# Altium schematic symbol library NEW-MODUL.SchLib: 247 symbols (part 1 of 2)
Pins are listed as number, name and electrical type; pins without a type are passive.

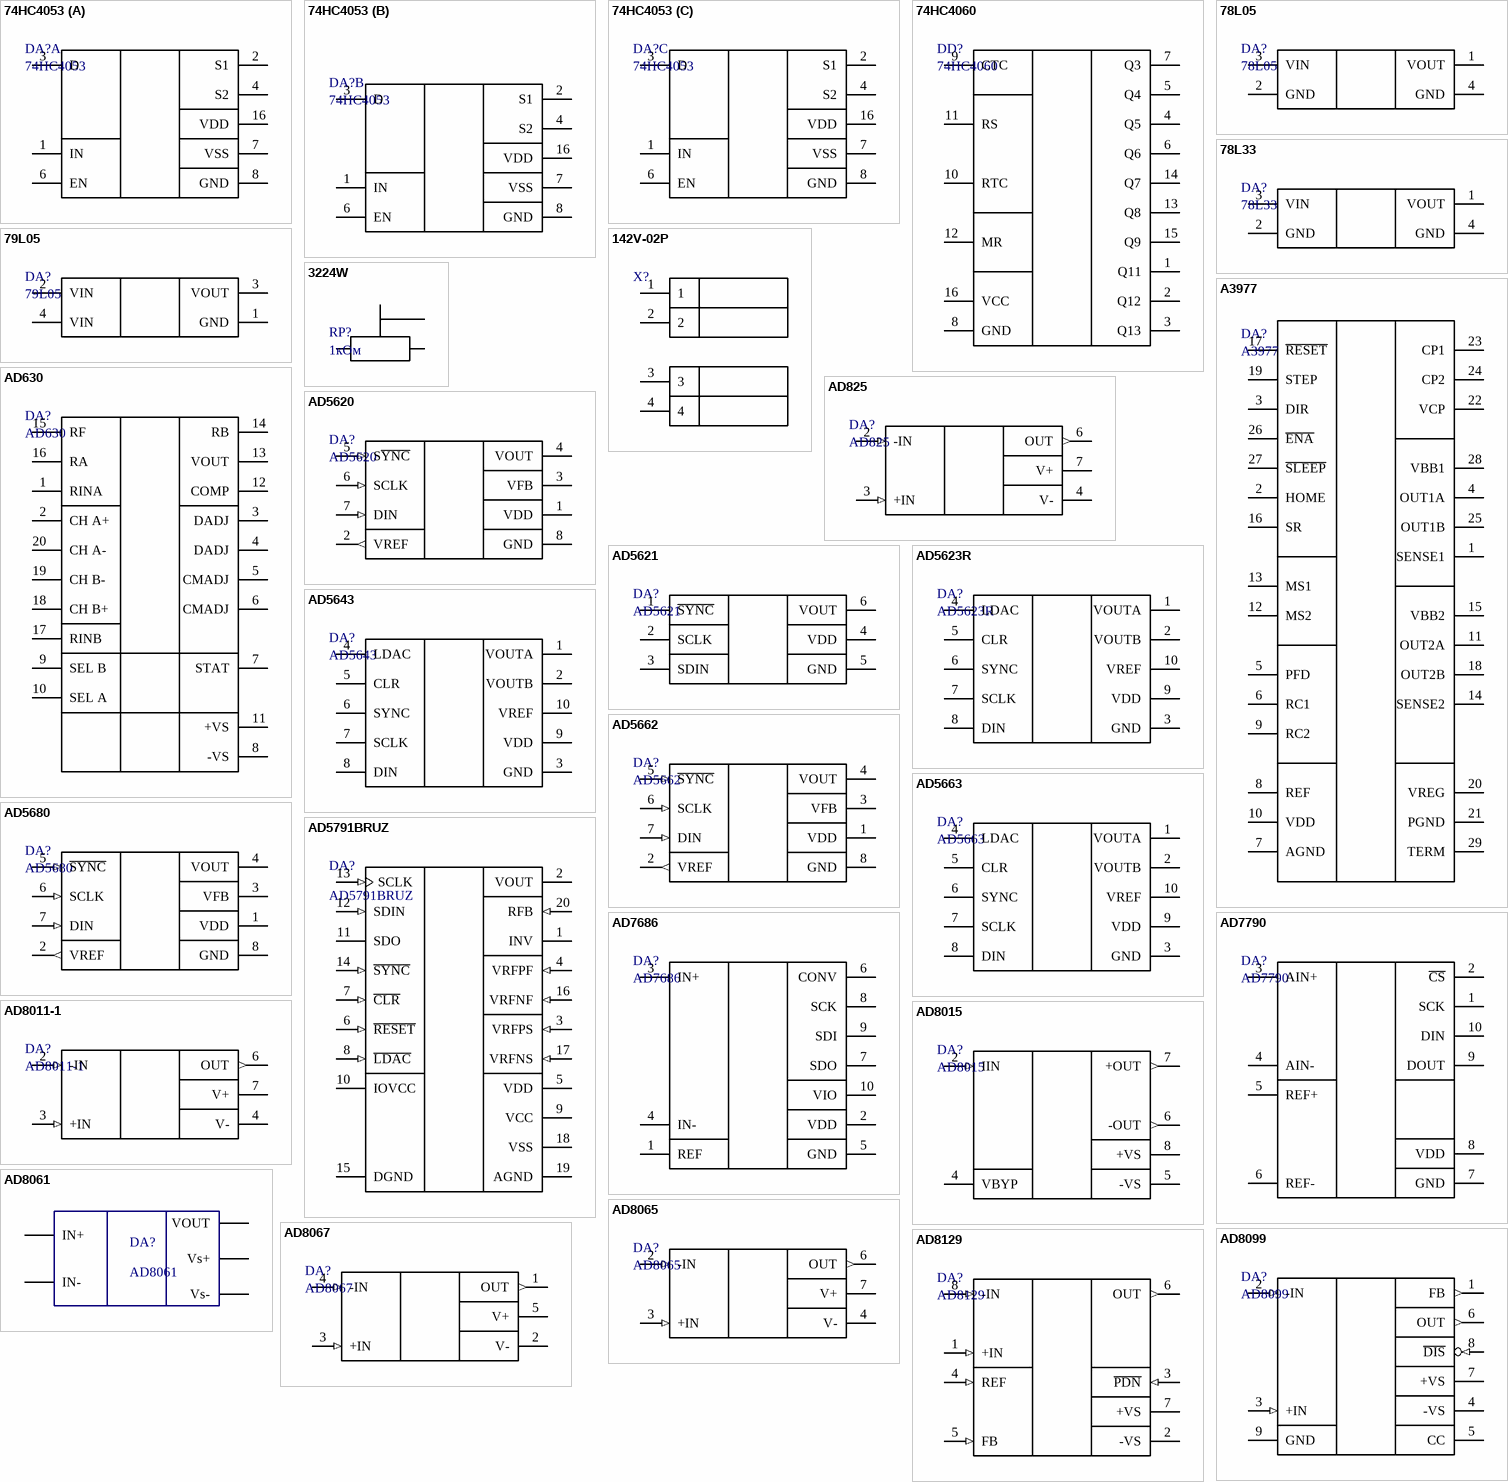
[diagram p0: symbols 74HC4053 to AD8129]

## 74HC4053
designator DA?
footprint R-16A_M (16-Pin Small Outline Integrated Circuit 1.27 mm Pitch, IPC Low Density)
part A pins: 1 IN, 2 S1, 3 D, 4 S2, 6 EN, 7 VSS, 8 GND, 16 VDD
part B pins: 1 IN, 2 S1, 3 D, 4 S2, 6 EN, 7 VSS, 8 GND, 16 VDD
part C pins: 1 IN, 2 S1, 3 D, 4 S2, 6 EN, 7 VSS, 8 GND, 16 VDD

## 74HC4060
designator DD?
14-stage binary ripple counter with oscillator
footprint R-16A_M (16-Pin Small Outline Integrated Circuit 1.27 mm Pitch, IPC Low Density)
pins: 1 Q11, 2 Q12, 3 Q13, 4 Q5, 5 Q4, 6 Q6, 7 Q3, 8 GND, 9 CTC, 10 RTC, 11 RS, 12 MR, 13 Q8, 14 Q7, 15 Q9, 16 VCC

## 78L05
designator DA?
footprint SOT89 (SOT-89; Body 4.6 x 4.25 mm, inc. leads (LxW max))
pins: 1 VOUT, 2 GND, 3 VIN, 4 GND

## 78L33
designator DA?
footprint SOT89 (SOT-89; Body 4.6 x 4.25 mm, inc. leads (LxW max))
pins: 1 VOUT, 2 GND, 3 VIN, 4 GND

## 79L05
designator DA?
footprint SOT89 (SOT-89; Body 4.6 x 4.25 mm, inc. leads (LxW max))
pins: 1 GND, 2 VIN, 3 VOUT, 4 VIN

## 142V-02P
designator X?  (value not drawn)
footprint 142V-02P
pins: 1, 2, 3, 4

## 3224W
designator RP?, comment 1кОм
подстроечный резистор; Value: 1кОм
footprint 3224W
pins: 1, 2, 3

## A3977
designator DA?
footprint TSOP65P640-28AM - THERMAL-PAD (TSOP, 28-Leads, Body 9.7x4.4mm, Pitch 0.65mm, IPC Low Density)
pins: 1 SENSE1, 2 HOME, 3 DIR, 4 OUT1A, 5 PFD, 6 RC1, 7 AGND, 8 REF, 9 RC2, 10 VDD, 11 OUT2A, 12 MS2, 13 MS1, 14 SENSE2, 15 VBB2, 16 SR, 17 ~{RESET}, 18 OUT2B, 19 STEP, 20 VREG, 21 PGND, 22 VCP, 23 CP1, 24 CP2, 25 OUT1B, 26 ~{ENA}, 27 ~{SLEEP}, 28 VBB1, 29 TERM

## AD630
designator DA?
Balanced Modulator/Demodulator
footprint SOL-20_M (20-Pin Small Outline Integrated Circuit 1.27 mm Pitch, IPC Low Density)
pins: 1 RINA, 2 CH A+, 3 DADJ, 4 DADJ, 5 CMADJ, 6 CMADJ, 7 STAT, 8 -VS, 9 SEL B, 10 SEL A, 11 +VS, 12 COMP, 13 VOUT, 14 RB, 15 RF, 16 RA, 17 RINB, 18 CH B+, 19 CH B-, 20 CH A-

## AD825
designator DA?
FET OP
footprint SOIC127P600-8BM (SOIC, 8-Leads, Body 4.9x3.9mm, Pitch 1.27mm, IPC Low Density)
pins: 2 -IN (in), 3 +IN (in), 4 V- (power), 6 OUT (out), 7 V+ (power)

## AD5620
designator DA?
footprint UMAX8 (Shrink Small Outline; 8 Leads; Body Width 3 mm; Pitch 0.65 mm)
pins: 1 VDD (power), 2 VREF (out), 3 VFB, 4 VOUT, 5 S~{YNC} (in), 6 SCLK (in), 7 DIN (in), 8 GND

## AD5621
designator DA?
footprint ADI-KS-6_N (SOT23, 6-Leads, Body 2x1.25mm, Pitch 0.65mm, IPC Medium Density)
pins: 1 ~{SYNC}, 2 SCLK, 3 SDIN, 4 VDD, 5 GND, 6 VOUT

## AD5623R
designator DA?
footprint UMAX10 (Shrink Small Outline; 10 Leads; Body Width 3 mm; Pitch 0.5 mm)
pins: 1 VOUTA, 2 VOUTB, 3 GND, 4 LDAC, 5 CLR, 6 SYNC, 7 SCLK, 8 DIN, 9 VDD, 10 VREF

## AD5643
designator DA?
footprint UMAX10 (Shrink Small Outline; 10 Leads; Body Width 3 mm; Pitch 0.5 mm)
pins: 1 VOUTA, 2 VOUTB, 3 GND, 4 LDAC, 5 CLR, 6 SYNC, 7 SCLK, 8 DIN, 9 VDD, 10 VREF

## AD5662
designator DA?
footprint UMAX8 (Shrink Small Outline; 8 Leads; Body Width 3 mm; Pitch 0.65 mm)
pins: 1 VDD (power), 2 VREF (out), 3 VFB, 4 VOUT, 5 ~{SYNC} (in), 6 SCLK (in), 7 DIN (in), 8 GND

## AD5663
designator DA?
footprint UMAX10 (Shrink Small Outline; 10 Leads; Body Width 3 mm; Pitch 0.5 mm)
pins: 1 VOUTA, 2 VOUTB, 3 GND, 4 LDAC, 5 CLR, 6 SYNC, 7 SCLK, 8 DIN, 9 VDD, 10 VREF

## AD5680
designator DA?
5 V 18-Bit nanoDAC
footprint RJ-8_N (SOP, 8-Leads, Body 2.9x1.6mm, Pitch 0.65mm, IPC Medium Density)
pins: 1 VDD (power), 2 VREF (out), 3 VFB, 4 VOUT, 5 ~{SYNC} (in), 6 SCLK (in), 7 DIN (in), 8 GND

## AD5791BRUZ
designator DA?
Single 20-Bit Voltage Output Digital-to-Analog Converter, 1 ppm, -40 to +125 degC, RU-20, Pb-Free, Tube; ADI Part Number: AD5791; Manufacturer: Analog Devices; # DAC Outputs: 1; Max V+: 16.5V; Op Pwr Diss: 126.3mW; Resolution (Bits): 20; Settling Time: 1µs; Single Supply: No; DatasheetVersion: Rev.C; PackageVersion: 2000; PackageReference: RU-20; PackageDescription: 20-Lead Thin Shrink Small Outline Package [TSSOP]; Packing: Tube; RoHS: Y; Mounting Technology: Surface Mount; Code_JEDEC: MO-153AC; ComponentLink1Description: Manufacturer URL; ComponentLink1URL: http://www.analog.com/en/index.html; ComponentLink2Description: Datasheet; ComponentLink2URL: http://www.analog.com/static/imported-files/data_sheets/AD5791.pdf; ComponentLink3Description: Package Specification; ComponentLink3URL: http://www.analog.com/static/imported-files/packages/364515793657813558433715854054607941441RU20.pdf; ComponentLink4Description: URL Link1; ComponentLink4URL: Product URL:http://www.analog.com/en/digital-to-analog-converters/da-converters/ad5791/products/product.html
footprint TSOP65P640-20BM (TSOP, 20-Leads, Body 6.5x4.4mm, Pitch 0.65mm, IPC Low Density)
pins: 1 INV "Connection to Inverting Input of External Amplifier. See the AD5791 Features section for further details.", 2 VOUT (hiz) "Analog Output Voltage.", 3 VRFPS (in) "Positive Reference Sense Voltage Input. A voltage range of 5 V to VDD - 2.5 V can be connected. A unity gain amplifier must be connected at this pin in conjunction with the VREFPF pin. See the AD5791 Features section for (See Datasheet)", 4 VRFPF (in) "Positive Reference Force Voltage Input. A voltage range of 5 V to VDD - 2.5 V can be connected. A unity gain amplifier must be connected at this pin in conjunction with the VREFPS pin. See the AD5791 Features section for (See Datasheet)", 5 VDD (power) "Positive Analog Supply Connection. A voltage range of 7.5 V to 16.5 V can be connected, VDD should be decoupled to AGND.", 6 ~{RESET} (in) "Active Low Reset Logic Input Pin. Asserting this pin returns the AD5791 to its power-on status.", 7 ~{CLR} (in) "Active Low Clear Logic Input Pin. Asserting this pin sets the DAC register to a user defined value (see Table 13) and updates the DAC output. The output value depends on the DAC register coding that is being used, either (See Datasheet)", 8 ~{LDAC} (in) "Active Low Load DAC Logic Input Pin. This is used to update the DAC register and consequently, the analog output. When tied permanently low, the output is updated on the rising edge of S\Y\N\C\. If L\D\A\C\ is held high (See Datasheet)", 9 VCC (power) "Digital Supply Connection. A voltage range of 2.7 V to 5.5 V can be connected. VCC should be decoupled to DGND.", 10 IOVCC (power) "Digital Interface Supply Pin. Digital threshold levels are referenced to the voltage applied to this pin. A voltage in the range of 1.71 V to 5.5 V can be connected. IOVCC should not be allowed to exceed VCC.", 11 SDO (hiz) "Serial Data Output Pin. Data is clocked out on the rising edge of the serial clock input.", 12 SDIN (in) "Serial Data Input Pin. This device has a 24-bit shift register. Data is clocked into the register on the falling edge of the serial clock input.", 13 SCLK (in) "Serial Clock Input. Data is clocked into the input shift register on the falling edge of the serial clock input. Data can be transferred at clock rates of up to 35 MHz.", 14 ~{SYNC} (in) "Active Low Digital Interface Synchronization Input Pin. This is the frame synchronization signal for the input data. When S\Y\N\C\ is low, it enables the input shift register, and data is then transferred in on the falling (See Datasheet)", 15 DGND (power) "Ground Reference Pin for Digital Circuitry.", 16 VRFNF (in) "Negative Reference Force Voltage Input. A voltage range of VSS + 2.5 V to 0 V can be connected. A unity gain amplifier must be connected at this pin, in conjunction with the VREFNS pin. See the AD5791 Features section for (See Datasheet)", 17 VRFNS (in) "Negative Reference Sense Voltage Input. A voltage range of VSS + 2.5 V to 0 V can be connected. A unity gain amplifier must be connected at this pin, in conjunction with the VREFNF pin. See the AD5791 Features section for (See Datasheet)", 18 VSS (power) "Negative Analog Supply Connection. A voltage range of -16.5 V to -2.5 V can be connected. VSS should be decoupled to AGND.", 19 AGND (power) "Ground Reference Pin for Analog Circuitry.", 20 RFB (in) "Feedback Connection for External Amplifier. See the AD5791 Features section for further details."

## AD7686
designator DA?
footprint UMAX10 (Shrink Small Outline; 10 Leads; Body Width 3 mm; Pitch 0.5 mm)
pins: 1 REF, 2 VDD, 3 IN+, 4 IN-, 5 GND, 6 CONV, 7 SDO, 8 SCK, 9 SDI, 10 VIO

## AD7790
designator DA?
footprint UMAX10 (Shrink Small Outline; 10 Leads; Body Width 3 mm; Pitch 0.5 mm)
pins: 1 SCK, 2 ~{CS}, 3 AIN+, 4 AIN-, 5 REF+, 6 REF-, 7 GND, 8 VDD, 9 DOUT, 10 DIN

## AD8011-1
designator DA?
Current Feedback Amplifier
footprint SOIC127P600-8BM (SOIC, 8-Leads, Body 4.9x3.9mm, Pitch 1.27mm, IPC Low Density)
pins: 2 -IN (in), 3 +IN (in), 4 V- (power), 6 OUT (out), 7 V+ (power)

## AD8015
designator DA?
Трансимпедансный усилитель
footprint SOIC127P600-8BM (SOIC, 8-Leads, Body 4.9x3.9mm, Pitch 1.27mm, IPC Low Density)
pins: 2 IIN (in), 4 VBYP, 5 -VS (power), 6 -OUT (out), 7 +OUT (out), 8 +VS (power)

## AD8061
designator DA?
OpAmp, Rail-toRail
footprint SOT23-5AM (SOT23, 5-Leads, Body 2.9x1.7mm, Pitch 0.95mm, Lead Span 2.8mm, IPC Low Density)
pins: 1 VOUT, 2 Vs-, 3 IN+, 4 IN-, 5 Vs+

## AD8065
designator DA?
FET OP
footprint SOIC127P600-8BM (SOIC, 8-Leads, Body 4.9x3.9mm, Pitch 1.27mm, IPC Low Density)
pins: 2 -IN (in), 3 +IN (in), 4 V- (power), 6 OUT (out), 7 V+ (power)

## AD8067
designator DA?
FET OP
footprint SOT23-5AM (SOT23, 5-Leads, Body 2.9x1.7mm, Pitch 0.95mm, Lead Span 2.8mm, IPC Low Density)
pins: 1 OUT (out), 2 V- (power), 3 +IN (in), 4 -IN (in), 5 V+ (power)

## AD8099
designator DA?
footprint SOIC_N_EP (8-Pin Small Outline Integrated Circuit 1.27 mm Pitch, IPC High Density)
pins: 1 FB (out), 2 -IN (in), 3 +IN (in), 4 -VS (power), 5 CC (power), 6 OUT (out), 7 +VS (power), 8 ~{DIS} (in), 9 GND

## AD8129
designator DA?
differential-to-single-ended amplifier
footprint SOIC127P600-8BM (SOIC, 8-Leads, Body 4.9x3.9mm, Pitch 1.27mm, IPC Low Density)
pins: 1 +IN (in), 2 -VS (power), 3 ~{PDN} (in), 4 REF (in), 5 FB (in), 6 OUT (out), 7 +VS (power), 8 -IN (in)

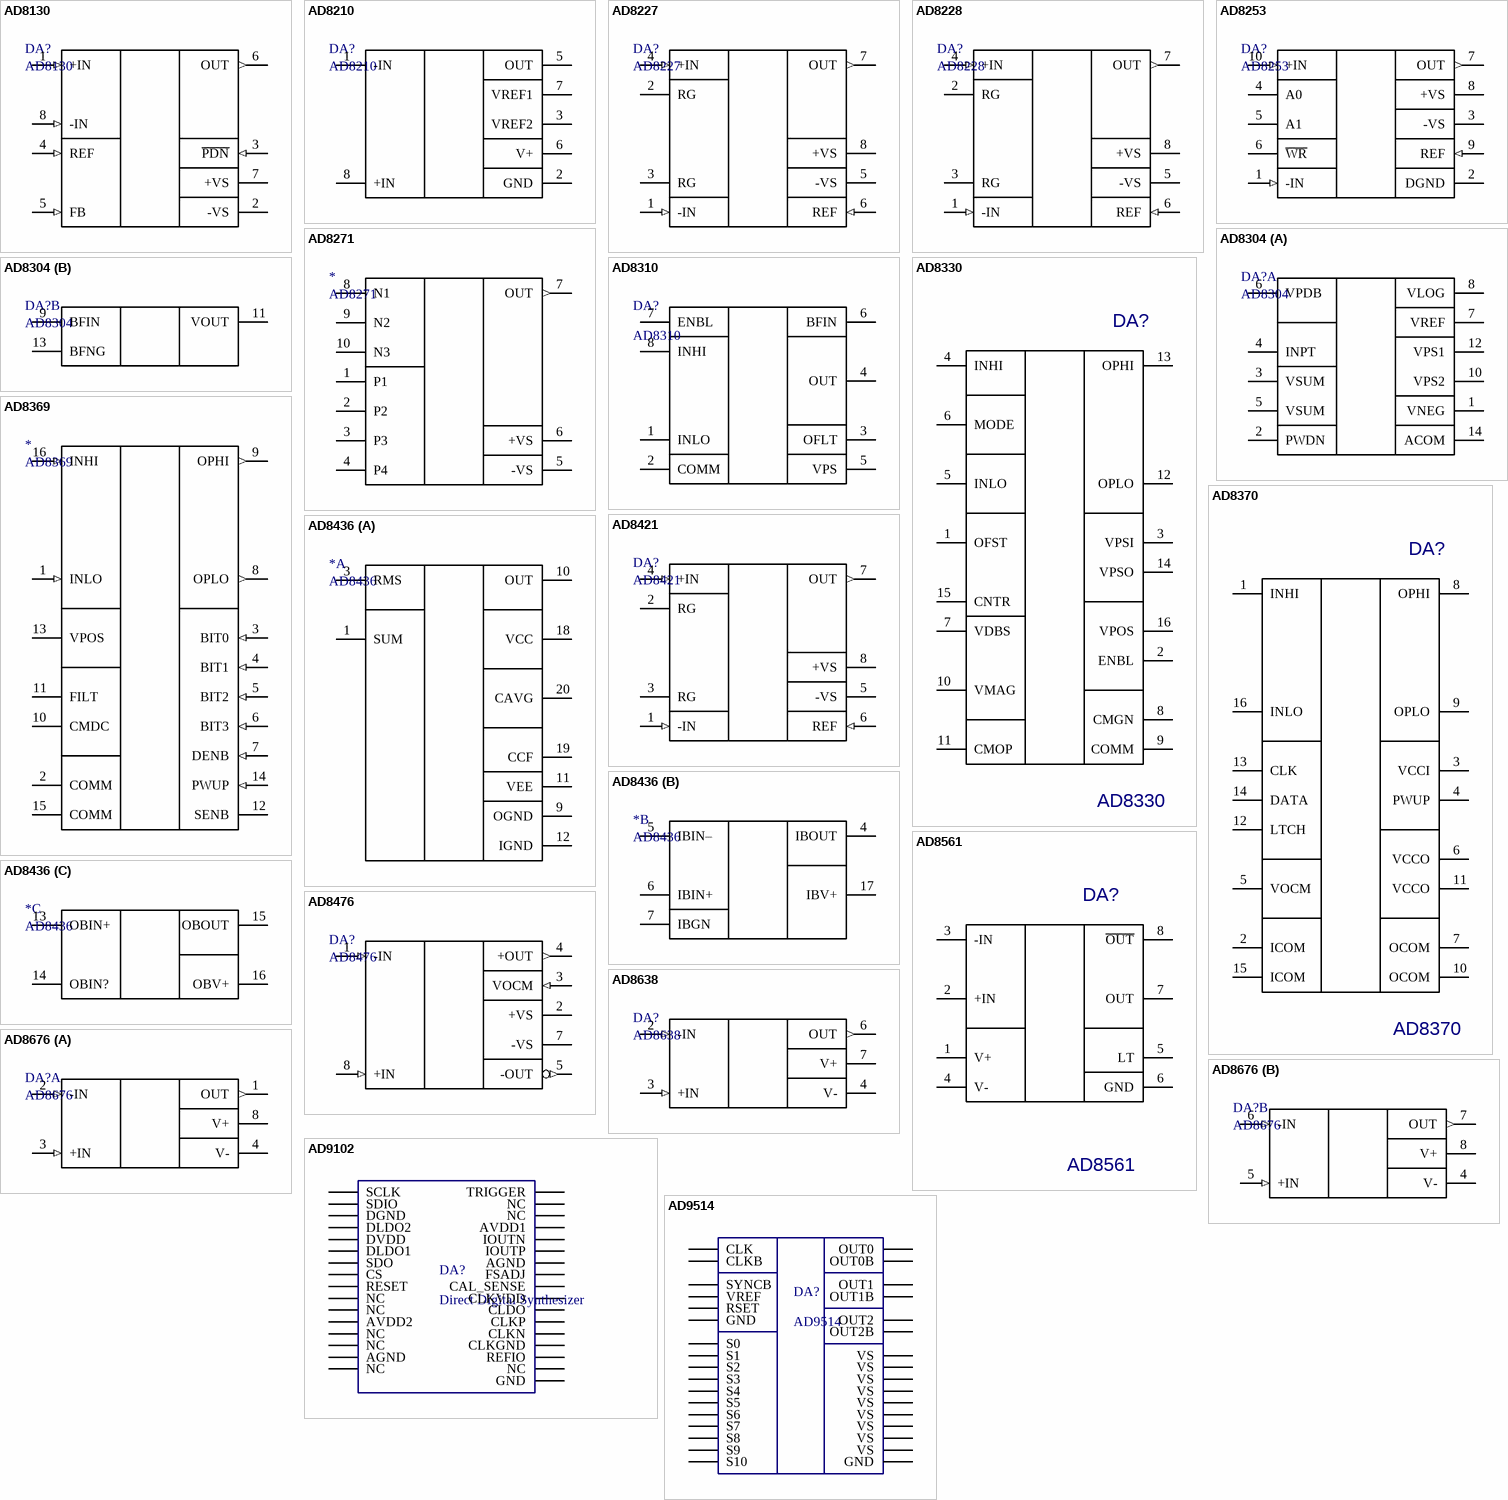
[diagram p1: symbols AD8130 to AD9514]

## AD8130
designator DA?
differential-to-single-ended amplifier
footprint SOIC127P600-8BM (SOIC, 8-Leads, Body 4.9x3.9mm, Pitch 1.27mm, IPC Low Density)
pins: 1 +IN (in), 2 -VS (power), 3 ~{PDN} (in), 4 REF (in), 5 FB (in), 6 OUT (out), 7 +VS (power), 8 -IN (in)

## AD8210
designator DA?
High Voltage, Bidirectional  Current Shunt Monitor
footprint SOIC127P600-8BM (SOIC, 8-Leads, Body 4.9x3.9mm, Pitch 1.27mm, IPC Low Density)
pins: 1 -IN, 2 GND, 3 VREF2, 5 OUT, 6 V+, 7 VREF1, 8 +IN

## AD8227
designator DA?
instrumentation amplifier
footprint SO-8_L (8-Pin Small Outline Integrated Circuit 1.27 mm Pitch, IPC High Density)
pins: 1 -IN (in), 2 RG, 3 RG, 4 +IN (in), 5 -VS (power), 6 REF (in), 7 OUT (out), 8 +VS (power)

## AD8228
designator DA?
instrumentation amplifier
footprint SO-8_L (8-Pin Small Outline Integrated Circuit 1.27 mm Pitch, IPC High Density)
pins: 1 -IN (in), 2 RG, 3 RG, 4 +IN (in), 5 -VS (power), 6 REF (in), 7 OUT (out), 8 +VS (power)

## AD8253
designator DA?
instrumentation amplifier
footprint UMAX10 (Shrink Small Outline; 10 Leads; Body Width 3 mm; Pitch 0.5 mm)
pins: 1 -IN (in), 2 DGND, 3 -VS (power), 4 A0, 5 A1, 6 ~{WR}, 7 OUT (out), 8 +VS (power), 9 REF (in), 10 +IN (in)

## AD8271
designator *
footprint UMAX10 (Shrink Small Outline; 10 Leads; Body Width 3 mm; Pitch 0.5 mm)
pins: 1 P1, 2 P2, 3 P3, 4 P4, 5 -VS (power), 6 +VS (power), 7 OUT (out), 8 N1, 9 N2, 10 N3

## AD8304
designator DA?
160 dB Range (100 pA –10 mA)  Logarithmic Converter
footprint ADI-RU-14_N (SOP, 14-Leads, Body 5x4.4mm, Pitch 0.65mm, IPC Medium Density)
part A pins: 1 VNEG, 2 PWDN, 3 VSUM, 4 INPT, 5 VSUM, 6 VPDB, 7 VREF, 8 VLOG, 10 VPS2, 12 VPS1, 14 ACOM
part B pins: 9 BFIN, 11 VOUT, 13 BFNG

## AD8310
designator DA?
footprint UMAX8 (Shrink Small Outline; 8 Leads; Body Width 3 mm; Pitch 0.65 mm)
pins: 1 INLO, 2 COMM, 3 OFLT, 4 OUT, 5 VPS, 6 BFIN, 7 ENBL, 8 INHI

## AD8330
designator DA?
Value: *
footprint QSOP16
pins: 1 OFST, 2 ENBL, 3 VPSI, 4 INHI, 5 INLO, 6 MODE, 7 VDBS, 8 CMGN, 9 COMM, 10 VMAG, 11 CMOP, 12 OPLO, 13 OPHI, 14 VPSO, 15 CNTR, 16 VPOS

## AD8369
designator *
footprint QSOP16
pins: 1 INLO (in), 2 COMM, 3 BIT0 (in), 4 BIT1 (in), 5 BIT2 (in), 6 BIT3 (in), 7 DENB (in), 8 OPLO (out), 9 OPHI (out), 10 CMDC, 11 FILT, 12 SENB, 13 VPOS, 14 PWUP (in), 15 COMM, 16 INHI (in)

## AD8370
designator DA?
Value: *
footprint QSOP16
pins: 1 INHI, 2 ICOM, 3 VCCI, 4 PWUP, 5 VOCM, 6 VCCO, 7 OCOM, 8 OPHI, 9 OPLO, 10 OCOM, 11 VCCO, 12 LTCH, 13 CLK, 14 DATA, 15 ICOM, 16 INLO

## AD8421
designator DA?
instrumentation amplifier
footprint SO-8_L (8-Pin Small Outline Integrated Circuit 1.27 mm Pitch, IPC High Density)
pins: 1 -IN (in), 2 RG, 3 RG, 4 +IN (in), 5 -VS (power), 6 REF (in), 7 OUT (out), 8 +VS (power)

## AD8436
designator *
footprint QSOP20
part A pins: 1 SUM, 3 RMS, 9 OGND, 10 OUT, 11 VEE, 12 IGND, 18 VCC, 19 CCF, 20 CAVG
part B pins: 4 IBOUT, 5 IBIN–, 6 IBIN+, 7 IBGN, 17 IBV+
part C pins: 13 OBIN+, 14 OBIN?, 15 OBOUT, 16 OBV+

## AD8476
designator DA?
Low Power, Unity Gain, Fully  Differential Amplifier and ADC Driver
footprint UMAX8 (Shrink Small Outline; 8 Leads; Body Width 3 mm; Pitch 0.65 mm)
pins: 1 -IN (in), 2 +VS (power), 3 VOCM (in), 4 +OUT (out), 5 -OUT (out), 7 -VS (power), 8 +IN (in)

## AD8561
designator DA?
Value: *
footprint SOIC127P600-8BM (SOIC, 8-Leads, Body 4.9x3.9mm, Pitch 1.27mm, IPC Low Density)
pins: 1 V+, 2 +IN, 3 -IN, 4 V-, 5 LT, 6 GND, 7 OUT, 8 ~{OUT}

## AD8638
designator DA?
OP
footprint SOIC127P600-8BM (SOIC, 8-Leads, Body 4.9x3.9mm, Pitch 1.27mm, IPC Low Density)
pins: 2 -IN (in), 3 +IN (in), 4 V- (power), 6 OUT (out), 7 V+ (power)

## AD8676
designator DA?
Ultra Precision, 36 V, 2.8 nV/√Hz Dual RRO Op Amp
footprint SOIC127P600-8BM (SOIC, 8-Leads, Body 4.9x3.9mm, Pitch 1.27mm, IPC Low Density)
part A pins: 1 OUT (out), 2 -IN (in), 3 +IN (in), 4 V- (power), 8 V+ (power)
part B pins: 4 V- (power), 5 +IN (in), 6 -IN (in), 7 OUT (out), 8 V+ (power)

## AD9102
designator DA?, comment Direct Digital Synthesizer
footprint CP-32-2_M (QFN, 32-Leads, Body 5x5mm, Pitch 0.5mm, Thermal Pad 3.1x3.1mm, IPC Low Density)
pins: 1 SCLK, 2 SDIO, 3 DGND, 4 DLDO2, 5 DVDD, 6 DLDO1, 7 SDO, 8 CS, 9 RESET, 10 NC, 11 NC, 12 AVDD2, 13 NC, 14 NC, 15 AGND, 16 NC, 17 NC, 18 REFIO, 19 CLKGND, 20 CLKN, 21 CLKP, 22 CLDO, 23 CLKVDD, 24 CAL_SENSE, 25 FSADJ, 26 AGND, 27 IOUTP, 28 IOUTN, 29 AVDD1, 30 NC, 31 NC, 32 TRIGGER, 33 GND

## AD9514
designator DA?
footprint CP-32-2_M (QFN, 32-Leads, Body 5x5mm, Pitch 0.5mm, Thermal Pad 3.1x3.1mm, IPC Low Density)
pins: 1 VS, 2 CLK, 3 CLKB, 4 VS, 5 SYNCB, 6 VREF, 7 S10, 8 S9, 9 S8, 10 S7, 11 S6, 12 S5, 13 S4, 14 S3, 15 S2, 16 S1, 17 VS, 18 OUT2B, 19 OUT2, 20 VS, 21 VS, 22 OUT1B, 23 OUT1, 24 VS, 25 S0, 26 VS, 27 OUT0B, 28 OUT0, 29 VS, 30 VS, 31 GND, 32 RSET, 33 GND

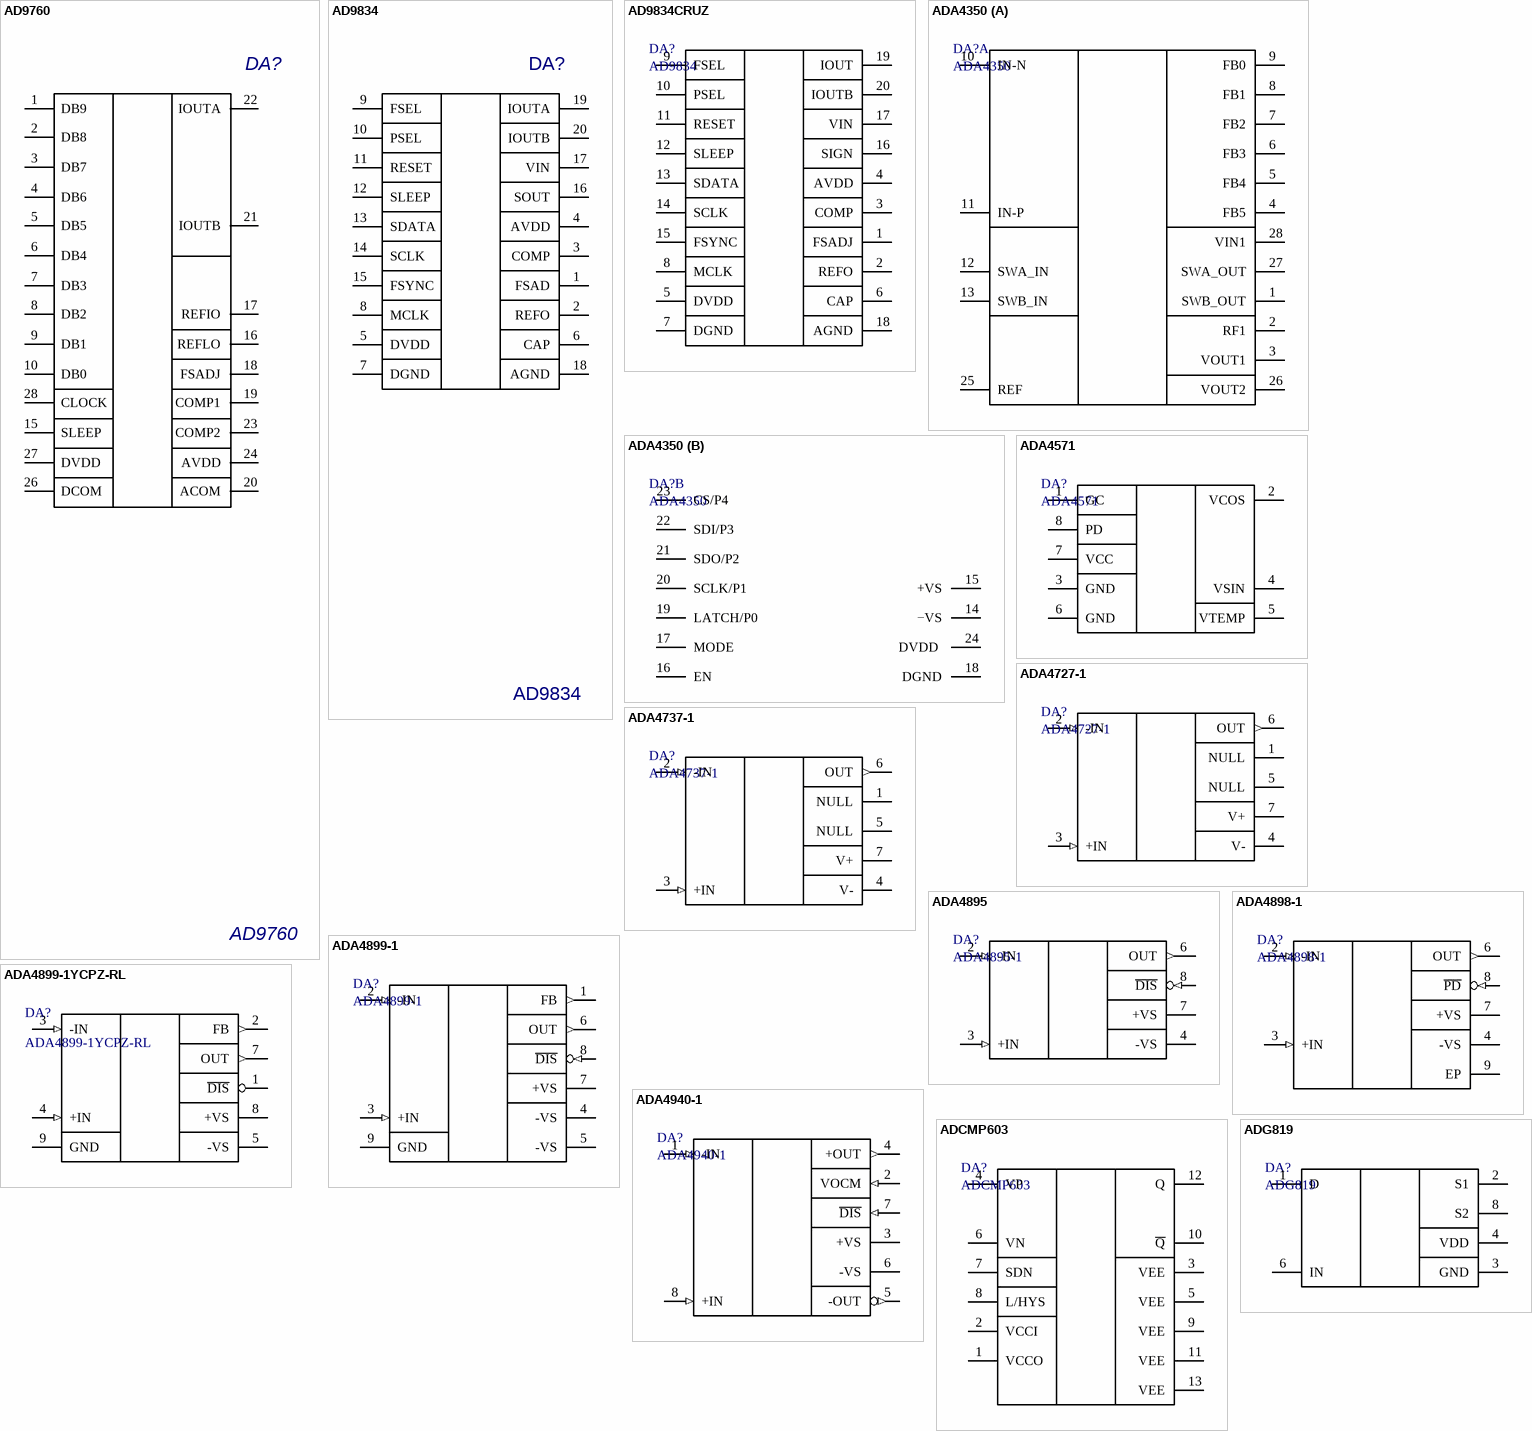
[diagram p2: symbols AD9760 to ADG819]

## AD9760
designator DA?
AD9760 TXDAC
footprint TSOP65P640-28AM (TSOP, 28-Leads, Body 9.7x4.4mm, Pitch 0.65mm, IPC Low Density)
pins: 1 DB9, 2 DB8, 3 DB7, 4 DB6, 5 DB5, 6 DB4, 7 DB3, 8 DB2, 9 DB1, 10 DB0, 11 hidden, 12 hidden, 13 hidden, 14 hidden, 15 SLEEP, 16 REFLO, 17 REFIO, 18 FSADJ, 19 COMP1, 20 ACOM, 21 IOUTB, 22 IOUTA, 23 COMP2, 24 AVDD, 25 hidden, 26 DCOM, 27 DVDD, 28 CLOCK

## AD9834
designator DA?
AD9834 синтезатор частоты
footprint TSOP65P640-20BM (TSOP, 20-Leads, Body 6.5x4.4mm, Pitch 0.65mm, IPC Low Density)
pins: 1 FSAD, 2 REFO, 3 COMP, 4 AVDD, 5 DVDD, 6 CAP, 7 DGND, 8 MCLK, 9 FSEL, 10 PSEL, 11 RESET, 12 SLEEP, 13 SDATA, 14 SCLK, 15 FSYNC, 16 SOUT, 17 VIN, 18 AGND, 19 IOUTA, 20 IOUTB

## AD9834CRUZ
designator DA?, comment AD9834
75 MHz Complete DDS
footprint TSOP65P640-20BM (TSOP, 20-Leads, Body 6.5x4.4mm, Pitch 0.65mm, IPC Low Density)
pins: 1 FSADJ, 2 REFO, 3 COMP, 4 AVDD, 5 DVDD (power), 6 CAP, 7 DGND (power), 8 MCLK, 9 FSEL, 10 PSEL, 11 RESET, 12 SLEEP, 13 SDATA, 14 SCLK, 15 FSYNC, 16 SIGN, 17 VIN, 18 AGND (power), 19 IOUT, 20 IOUTB

## ADA4350
designator DA?
FET Input Analog Front End  with ADC Driver
footprint RU-28_M (TSOP, 28-Leads, Body 9.7x4.4mm, Pitch 0.65mm, IPC Low Density)
part A pins: 1 SWB_OUT, 2 RF1, 3 VOUT1, 4 FB5, 5 FB4, 6 FB3, 7 FB2, 8 FB1, 9 FB0, 10 IN-N , 11 IN-P , 12 SWA_IN , 13 SWB_IN , 25 REF , 26 VOUT2, 27 SWA_OUT, 28 VIN1
part B pins: 14 −VS, 15 +VS, 16 EN , 17 MODE, 18 DGND, 19 LATCH/P0, 20 SCLK/P1 , 21 SDO/P2 , 22 SDI/P3, 23 CS/P4 , 24 DVDD 

## ADA4571
designator DA?
footprint SOIC127P600-8BM (SOIC, 8-Leads, Body 4.9x3.9mm, Pitch 1.27mm, IPC Low Density)
pins: 1 GC, 2 VCOS, 3 GND, 4 VSIN, 5 VTEMP, 6 GND, 7 VCC, 8 PD

## ADA4727-1
designator DA?
FET OP
footprint SOIC127P600-8BM (SOIC, 8-Leads, Body 4.9x3.9mm, Pitch 1.27mm, IPC Low Density)
pins: 1 NULL, 2 -IN (in), 3 +IN (in), 4 V- (power), 5 NULL, 6 OUT (out), 7 V+ (power)

## ADA4737-1
designator DA?
FET OP
footprint SOIC127P600-8BM (SOIC, 8-Leads, Body 4.9x3.9mm, Pitch 1.27mm, IPC Low Density)
pins: 1 NULL, 2 -IN (in), 3 +IN (in), 4 V- (power), 5 NULL, 6 OUT (out), 7 V+ (power)

## ADA4895
designator DA?, comment ADA4895-1
OUTPUT AMPLIFIER
footprint SOIC127P600-8BM (SOIC, 8-Leads, Body 4.9x3.9mm, Pitch 1.27mm, IPC Low Density)
pins: 2 -IN (in), 3 +IN (in), 4 -VS (power), 6 OUT (out), 7 +VS (power), 8 ~{DIS} (in)

## ADA4898-1
designator DA?
LowNoise OPA
footprint SOIC_N_EP (8-Pin Small Outline Integrated Circuit 1.27 mm Pitch, IPC High Density)
pins: 2 -IN (in), 3 +IN (in), 4 -VS (power), 6 OUT (out), 7 +VS (power), 8 ~{PD} (in), 9 EP

## ADA4899-1
designator DA?
footprint SOIC_N_EP (8-Pin Small Outline Integrated Circuit 1.27 mm Pitch, IPC High Density)
pins: 1 FB (out), 2 -IN (in), 3 +IN (in), 4 -VS (power), 5 -VS (power), 6 OUT (out), 7 +VS (power), 8 ~{DIS} (in), 9 GND

## ADA4899-1YCPZ-RL
designator DA?
Single Channel Ultra Low Noise Operational Amplifier, 600 MHz BW, 310 V/us SR, Industrial, 8-pin QFN (CP-8-2), Reel; Manufacturer: Analog Devices; Amplifiers Per Package: 1; Input Bias Current: 100nA; Input Offset Voltage: 35uV; Iq/Amp: 16.2mA; Small Signal Bandwidth: 600MHz; V Span Max: 12V; V Span Min: 4.5V; DatasheetVersion: Rev. B; PackageVersion: 061507-B; PackageReference: CP-8-2; PackageDescription: 8-Pin Lead Frame Chip Scale Package, Body 3 x 3 mm, Pitch 0.5 mm; Supplier 1: Digi-Key; Supplier Part Number 1: ADA4899-1YCPZ-RL-ND; Generica Part Number: ADA4899-1; Slew Rate: 310V/us; Mounting Technology: Surface Mount; PartNumber: ADA4899-1YCPZ-RL; ComponentLink1Description: Manufacturer URL; ComponentLink1URL: http://www.analog.com/en/index.html; ComponentLink2Description: Datasheet; ComponentLink2URL: http://www.analog.com/static/imported-files/data_sheets/ADA4899-1.pdf; ComponentLink3Description: Package Specification; ComponentLink3URL: http://www.analog.com/static/imported-files/packages/56953322593982CP_8_2.pdf; ComponentLink4Description: URL Link1; ComponentLink4URL: Reference Circuit:http://www.analog.com/en/all-operational-amplifiers-op-amps/operational-amplifiers-op-amps/ada4899-1/products/product.html#product-recommendations
footprint ADI-CP-8-2_M (QFN, 8-Leads, Body 3x3mm, Pitch 0.5mm, Thermal Pad 1.45X1.74mm, IPC Low Density)
pins: 1 ~{DIS} (hiz), 2 FB (out), 3 -IN (in), 4 +IN (in), 5 -VS (power), 7 OUT (out), 8 +VS (power), 9 GND

## ADA4940-1
designator DA?
Differential ADC driver
footprint SOIC127P600-8BM (SOIC, 8-Leads, Body 4.9x3.9mm, Pitch 1.27mm, IPC Low Density)
pins: 1 -IN (in), 2 VOCM (in), 3 +VS (power), 4 +OUT (out), 5 -OUT (out), 6 -VS (power), 7 ~{DIS} (in), 8 +IN (in)

## ADCMP603
designator DA?
footprint QFN50P300X275X100-12M (QFN, 12-Leads, Body 3,0x2,8mm (max), Pitch 0,50mm, IPC Low Density)
pins: 1 VCCO, 2 VCCI, 3 VEE, 4 VP, 5 VEE, 6 VN, 7 SDN, 8 L/HYS, 9 VEE, 10 ~{Q}, 11 VEE, 12 Q, 13 VEE

## ADG819
designator DA?
footprint UMAX8 (Shrink Small Outline; 8 Leads; Body Width 3 mm; Pitch 0.65 mm)
pins: 1 D, 2 S1, 3 GND, 4 VDD, 6 IN, 8 S2

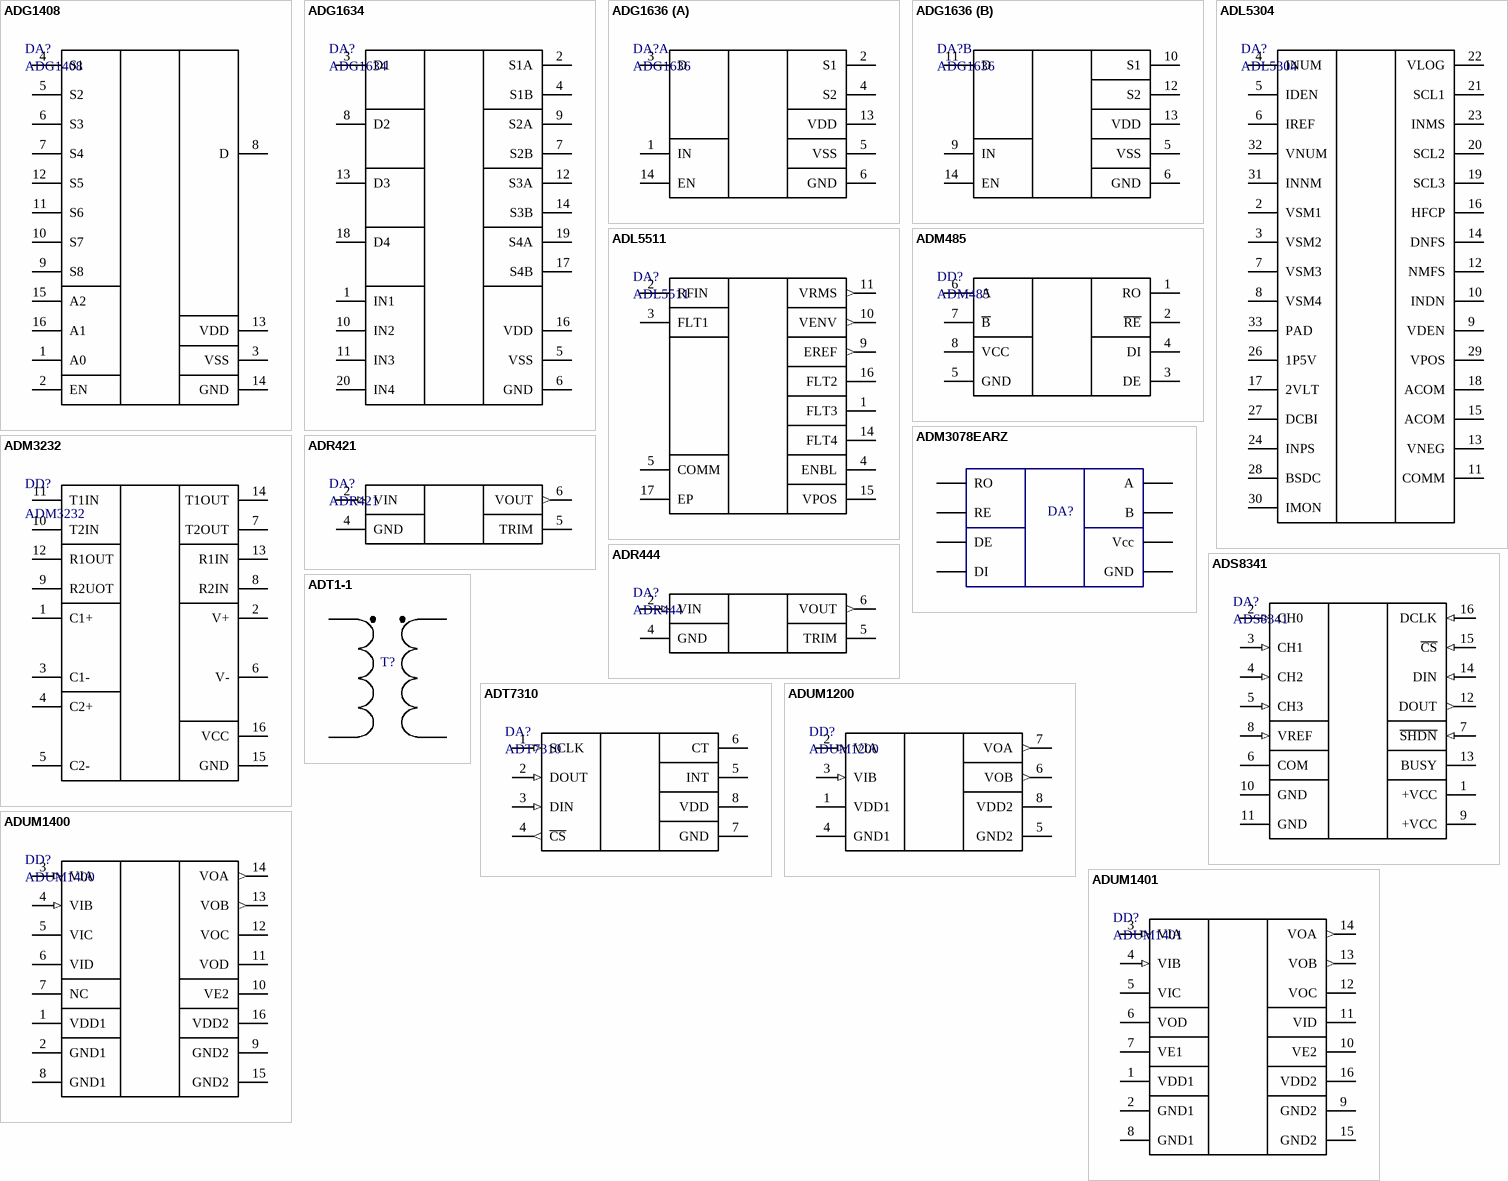
[diagram p3: symbols ADG1408 to ADUM1401]

## ADG1408
designator DA?
footprint ADI-RU-16_M (SOP, 16-Leads, Body 5x4.4mm, Pitch 0.65mm, IPC Low Density)
pins: 1 A0 , 2 EN , 3 VSS, 4 S1, 5 S2, 6 S3, 7 S4, 8 D, 9 S8, 10 S7, 11 S6, 12 S5, 13 VDD, 14 GND, 15 A2, 16 A1

## ADG1634
designator DA?
footprint TSOP65P640-20BM (TSOP, 20-Leads, Body 6.5x4.4mm, Pitch 0.65mm, IPC Low Density)
pins: 1 IN1, 2 S1A, 3 D1, 4 S1B, 5 VSS, 6 GND, 7 S2B, 8 D2, 9 S2A, 10 IN2, 11 IN3, 12 S3A, 13 D3, 14 S3B, 16 VDD, 17 S4B, 18 D4, 19 S4A, 20 IN4

## ADG1636
designator DA?
footprint ADI-RU-16_M (SOP, 16-Leads, Body 5x4.4mm, Pitch 0.65mm, IPC Low Density)
part A pins: 1 IN, 2 S1, 3 D, 4 S2, 5 VSS, 6 GND, 13 VDD, 14 EN
part B pins: 5 VSS, 6 GND, 9 IN, 10 S1, 11 D, 12 S2, 13 VDD, 14 EN

## ADL5304
designator DA?
footprint CP-32-2_M (QFN, 32-Leads, Body 5x5mm, Pitch 0.5mm, Thermal Pad 3.1x3.1mm, IPC Low Density)
pins: 2 VSM1, 3 VSM2, 4 INUM, 5 IDEN, 6 IREF, 7 VSM3, 8 VSM4, 9 VDEN, 10 INDN, 11 COMM, 12 NMFS, 13 VNEG, 14 DNFS, 15 ACOM, 16 HFCP, 17 2VLT, 18 ACOM, 19 SCL3, 20 SCL2, 21 SCL1, 22 VLOG, 23 INMS, 24 INPS, 26 1P5V, 27 DCBI, 28 BSDC, 29 VPOS, 30 IMON, 31 INNM, 32 VNUM, 33 PAD

## ADL5511
designator DA?
DC to 6 GHz  Envelope and TruPwr RMS Detector
footprint CP-16-22_M (QFN, 16-Leads, Body 3x3mm, Pitch 0.5mm, Thermal Pad 1.75x1.75mm, IPC Low Density)
pins: 1 FLT3, 2 RFIN, 3 FLT1, 4 ENBL, 5 COMM (power), 9 EREF (out), 10 VENV (out), 11 VRMS (out), 14 FLT4, 15 VPOS (power), 16 FLT2, 17 EP (power)

## ADM485
designator DD?
footprint SOIC127P600-8BM (SOIC, 8-Leads, Body 4.9x3.9mm, Pitch 1.27mm, IPC Low Density)
pins: 1 RO, 2 ~{RE}, 3 DE, 4 DI, 5 GND, 6 A, 7 ~{B}, 8 VCC

## ADM3078EARZ
designator DA?  (value not drawn)
footprint ADM3078EARZ
pins: 1 RO, 2 RE, 3 DE, 4 DI, 5 GND, 6 A, 7 B, 8 Vcc

## ADM3232
designator DD?
footprint R-16A_M (16-Pin Small Outline Integrated Circuit 1.27 mm Pitch, IPC Low Density)
pins: 1 C1+, 2 V+, 3 C1-, 4 C2+, 5 C2-, 6 V-, 7 T2OUT, 8 R2IN, 9 R2UOT, 10 T2IN, 11 T1IN, 12 R1OUT, 13 R1IN, 14 T1OUT, 15 GND, 16 VCC

## ADR421
designator DA?
Источник опорного напряжения
footprint SOIC127P600-8BM (SOIC, 8-Leads, Body 4.9x3.9mm, Pitch 1.27mm, IPC Low Density)
pins: 2 VIN (in), 4 GND (power), 5 TRIM, 6 VOUT (out)

## ADR444
designator DA?
Источник опорного напряжения 4,096В
footprint SOIC127P600-8BM (SOIC, 8-Leads, Body 4.9x3.9mm, Pitch 1.27mm, IPC Low Density)
pins: 2 VIN (in), 4 GND (power), 5 TRIM, 6 VOUT (out)

## ADS8341
designator DA?
footprint DBQ016 (SSOP; 16 Leads; Body Width 3.9 mm; Pitch 0.635 mm)
pins: 1 +VCC (power), 2 CH0 (in), 3 CH1 (in), 4 CH2 (in), 5 CH3 (in), 6 COM (power), 7 ~{SHDN} (in), 8 VREF (in), 9 +VCC (power), 10 GND (power), 11 GND (power), 12 DOUT (out), 13 BUSY, 14 DIN (in), 15 ~{CS} (in), 16 DCLK (in)

## ADT1-1
designator T?  (value not drawn)
Balun
footprint Adt1-1
pins: 1 P, 3 Pdot, 4 Sdot, 6 S

## ADT7310
designator DA?
±0.5°C Accurate, 16-Bit  Digital SPI Temperature Sensor
footprint SOIC127P600-8BM (SOIC, 8-Leads, Body 4.9x3.9mm, Pitch 1.27mm, IPC Low Density)
pins: 1 SCLK (in), 2 DOUT (in), 3 DIN (in), 4 ~{CS} (out), 5 INT, 6 CT, 7 GND, 8 VDD (power)

## ADUM1200
designator DD?
dual-channel digital isolator
footprint SOIC127P600-8BM (SOIC, 8-Leads, Body 4.9x3.9mm, Pitch 1.27mm, IPC Low Density)
pins: 1 VDD1 (power), 2 VIA (in), 3 VIB (in), 4 GND1, 5 GND2 (power), 6 VOB (out), 7 VOA (out), 8 VDD2 (power)

## ADUM1400
designator DD?
4-channel digital isolator
footprint RW-16_M (16-Pin Wide Body Small Outline Integrated Circuit 1.27 mm Pitch, IPC Low Density)
pins: 1 VDD1 (power), 2 GND1, 3 VIA (in), 4 VIB (in), 5 VIC, 6 VID, 7 NC, 8 GND1, 9 GND2 (power), 10 VE2, 11 VOD, 12 VOC, 13 VOB (out), 14 VOA (out), 15 GND2, 16 VDD2 (power)

## ADUM1401
designator DD?
dual-channel digital isolator
footprint RW-16_M (16-Pin Wide Body Small Outline Integrated Circuit 1.27 mm Pitch, IPC Low Density)
pins: 1 VDD1 (power), 2 GND1, 3 VIA (in), 4 VIB (in), 5 VIC, 6 VOD, 7 VE1, 8 GND1, 9 GND2 (power), 10 VE2, 11 VID, 12 VOC, 13 VOB (out), 14 VOA (out), 15 GND2, 16 VDD2 (power)

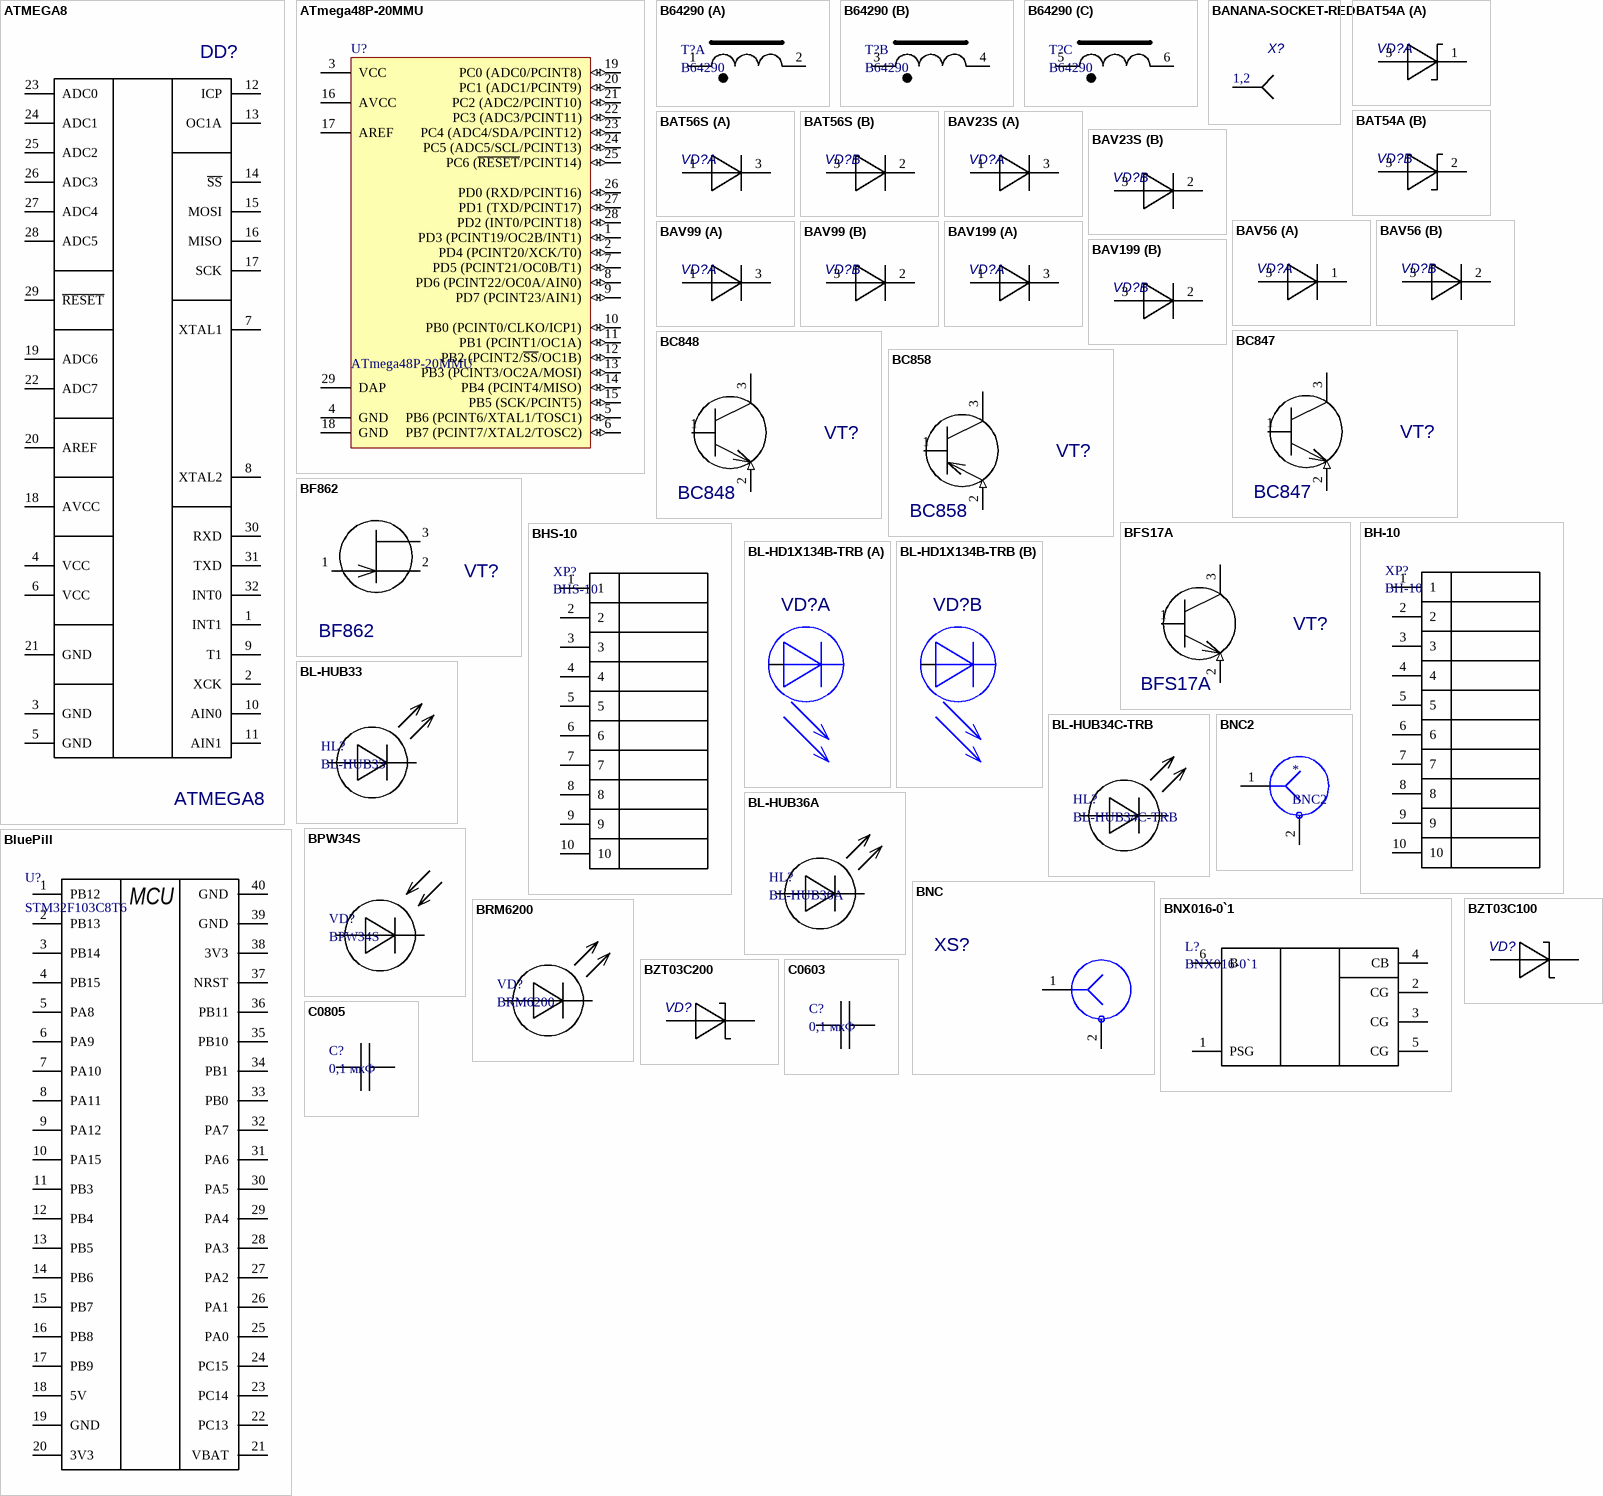
[diagram p4: symbols ATMEGA8 to C0805]

## ATMEGA8
designator DD?
Value: *
footprint 32A_L (32-Pin Thin Quad Flat Pack 0.8 mm Pitch, IPC High Density)
pins: 1 INT1, 2 XCK, 3 GND, 4 VCC, 5 GND, 6 VCC, 7 XTAL1, 8 XTAL2, 9 T1, 10 AIN0, 11 AIN1, 12 ICP, 13 OC1A, 14 ~{SS}, 15 MOSI, 16 MISO, 17 SCK, 18 AVCC, 19 ADC6, 20 AREF, 21 GND, 22 ADC7, 23 ADC0, 24 ADC1, 25 ADC2, 26 ADC3, 27 ADC4, 28 ADC5, 29 ~{RESET}, 30 RXD, 31 TXD, 32 INT0

## ATmega48P-20MMU
designator U?
8-bit AVR Microcontroller, picoPower, 2.7-5.5V, 4KB Flash, 256 Bytes EEPROM, 512 Bytes SRAM, 28-pin VQFN, Industrial Grade (-40°C to 85°C); DatasheetVersion: revM Jun-2011; PackageVersion: revB, Nov-2008; PackageReference: 28M1; PackageDescription: 28-pad, 4x4x1.0mm Body, Pitch 0.45mm, 2.4x2.4mm Exposed Pad, Plastic Very Thin QFN Package (VQFN); ComponentLink1Description: Manufacturer URL; ComponentLink1URL: http://www.atmel.com/; ComponentLink2Description: ATmega48P/88P/168P Datasheet; ComponentLink2URL: http://www.atmel.com/dyn/resources/prod_documents/doc8025.pdf; ComponentLink3Description: ATmega48P/88P/168P Summary; ComponentLink3URL: http://www.atmel.com/dyn/resources/prod_documents/8025s.pdf
footprint 28M1_N (QFN, 28-Leads, Body 4x4mm, Pitch 0.45mm, Thermal Pad 2.5x2.5mm, IPC Medium Density)
footprint 28M1_L (QFN, 28-Leads, Body 4x4mm, Pitch 0.45mm, Thermal Pad 2.5x2.5mm, IPC High Density)
footprint 28M1_M (QFN, 28-Leads, Body 4x4mm, Pitch 0.45mm, Thermal Pad 2.5x2.5mm, IPC Low Density)
pins: 1 PD3 (PCINT19/OC2B/INT1) (io), 2 PD4 (PCINT20/XCK/T0) (io), 3 VCC (power), 4 GND (power), 5 PB6 (PCINT6/XTAL1/TOSC1) (io), 6 PB7 (PCINT7/XTAL2/TOSC2) (io), 7 PD5 (PCINT21/OC0B/T1) (io), 8 PD6 (PCINT22/OC0A/AIN0) (io), 9 PD7 (PCINT23/AIN1) (io), 10 PB0 (PCINT0/CLKO/ICP1) (io), 11 PB1 (PCINT1/OC1A) (io), 12 PB2 (PCINT2/~{SS}/OC1B) (io), 13 PB3 (PCINT3/OC2A/MOSI) (io), 14 PB4 (PCINT4/MISO) (io), 15 PB5 (SCK/PCINT5) (io), 16 AVCC (power), 17 AREF (power), 18 GND (power), 19 PC0 (ADC0/PCINT8) (io), 20 PC1 (ADC1/PCINT9) (io), 21 PC2 (ADC2/PCINT10) (io), 22 PC3 (ADC3/PCINT11) (io), 23 PC4 (ADC4/SDA/PCINT12) (io), 24 PC5 (ADC5/SCL/PCINT13) (io), 25 PC6 (~{RESET}/PCINT14) (io), 26 PD0 (RXD/PCINT16) (io), 27 PD1 (TXD/PCINT17) (io), 28 PD2 (INT0/PCINT18) (io), 29 DAP (power)

## B64290
designator T?
footprint B64290 (Трансформатор для дозиметра)
part A pins: 1, 2
part B pins: 3, 4
part C pins: 5, 6

## BANANA-SOCKET-RED
designator X?  (value not drawn)
Value: *
footprint BANANA-SOCKET-RED
pins: 1, 2
text: 1,2

## BAT54A
designator VD?  (value not drawn)
Silicon Switching Diode Array for High-Speed Switching; Published: 21-Mar-2003; DatasheetDocument: Oct-1999; PackageDocument: Sep-2001; PackageReference: SOT-23; Publisher: Altium Limited; ComponentLink1Description: Manufacturer Link; ComponentLink1URL: http://www.infineon.com/; ComponentLink2Description: Datasheet; ComponentLink2URL: http://www.infineon.com/upload/Document/cmc_upload/documents/080/631/bav99series_1.pdf
footprint SOT23-3L (SOT23, 3-Leads, Body 2.9x1.3mm, Pitch 0.95mm, Lead Span 2.5mm, IPC High Density)
part A pins: 1 C, 3 A
part B pins: 2 C, 3 A

## BAT56S
designator VD?  (value not drawn)
Silicon Switching Diode Array for High-Speed Switching; Published: 21-Mar-2003; DatasheetDocument: Oct-1999; PackageDocument: Sep-2001; PackageReference: SOT-23; Publisher: Altium Limited; ComponentLink1Description: Manufacturer Link; ComponentLink1URL: http://www.infineon.com/; ComponentLink2Description: Datasheet; ComponentLink2URL: http://www.infineon.com/upload/Document/cmc_upload/documents/080/631/bav99series_1.pdf
simulation model BAV99 (SUBCKT)
footprint SOT23-3L (SOT23, 3-Leads, Body 2.9x1.3mm, Pitch 0.95mm, Lead Span 2.5mm, IPC High Density)
part A pins: 1 A, 3 C
part B pins: 2 K, 3 C

## BAV23S
designator VD?  (value not drawn)
Silicon Switching Diode Array for High-Speed Switching; Published: 21-Mar-2003; DatasheetDocument: Oct-1999; PackageDocument: Sep-2001; PackageReference: SOT-23; Publisher: Altium Limited; ComponentLink1Description: Manufacturer Link; ComponentLink1URL: http://www.infineon.com/; ComponentLink2Description: Datasheet; ComponentLink2URL: http://www.infineon.com/upload/Document/cmc_upload/documents/080/631/bav99series_1.pdf
simulation model BAV99 (SUBCKT)
footprint SOT23-3L (SOT23, 3-Leads, Body 2.9x1.3mm, Pitch 0.95mm, Lead Span 2.5mm, IPC High Density)
part A pins: 1 A, 3 C
part B pins: 2 K, 3 C

## BAV56
designator VD?  (value not drawn)
Silicon Switching Diode Array for High-Speed Switching; Published: 21-Mar-2003; DatasheetDocument: Oct-1999; PackageDocument: Sep-2001; PackageReference: SOT-23; Publisher: Altium Limited; ComponentLink1Description: Manufacturer Link; ComponentLink1URL: http://www.infineon.com/; ComponentLink2Description: Datasheet; ComponentLink2URL: http://www.infineon.com/upload/Document/cmc_upload/documents/080/631/bav99series_1.pdf
footprint SOT23-3L (SOT23, 3-Leads, Body 2.9x1.3mm, Pitch 0.95mm, Lead Span 2.5mm, IPC High Density)
part A pins: 1 C, 3 A
part B pins: 2 C, 3 A

## BAV99
designator VD?  (value not drawn)
Silicon Switching Diode Array for High-Speed Switching; Published: 21-Mar-2003; DatasheetDocument: Oct-1999; PackageDocument: Sep-2001; PackageReference: SOT-23; Publisher: Altium Limited; ComponentLink1Description: Manufacturer Link; ComponentLink1URL: http://www.infineon.com/; ComponentLink2Description: Datasheet; ComponentLink2URL: http://www.infineon.com/upload/Document/cmc_upload/documents/080/631/bav99series_1.pdf
simulation model BAV99 (SUBCKT)
footprint SOT23-3L (SOT23, 3-Leads, Body 2.9x1.3mm, Pitch 0.95mm, Lead Span 2.5mm, IPC High Density)
part A pins: 1 A, 3 C
part B pins: 2 K, 3 C

## BAV199
designator VD?  (value not drawn)
Silicon Switching Diode Array for High-Speed Switching; PackageDocument: Sep-2001; PackageReference: SOT-23
footprint SOT23-3L (SOT23, 3-Leads, Body 2.9x1.3mm, Pitch 0.95mm, Lead Span 2.5mm, IPC High Density)
part A pins: 1 A, 3 C
part B pins: 2 K, 3 C

## BC847
designator VT?
footprint SOT23-3L (SOT23, 3-Leads, Body 2.9x1.3mm, Pitch 0.95mm, Lead Span 2.5mm, IPC High Density)
pins: 1 BASE (oc), 2 EMIT (in), 3 COLLEC (oe)

## BC848
designator VT?
PDIF_TY: 89; PDIF_I_PID: KT3102; Value: *
footprint SOT23-3L (SOT23, 3-Leads, Body 2.9x1.3mm, Pitch 0.95mm, Lead Span 2.5mm, IPC High Density)
pins: 1 BASE (oc), 2 EMIT (in), 3 COLLEC (oe)

## BC858
designator VT?
footprint SOT23-3L (SOT23, 3-Leads, Body 2.9x1.3mm, Pitch 0.95mm, Lead Span 2.5mm, IPC High Density)
pins: 1 BASE (oc), 2 EMIT (in), 3 COLLEC (oe)

## BF862
designator VT?
N-CHANEL-FET
footprint SOT23-3L (SOT23, 3-Leads, Body 2.9x1.3mm, Pitch 0.95mm, Lead Span 2.5mm, IPC High Density)
pins: 1, 2, 3

## BFS17A
designator VT?
footprint SOT23-3L (SOT23, 3-Leads, Body 2.9x1.3mm, Pitch 0.95mm, Lead Span 2.5mm, IPC High Density)
pins: 1 BASE (oc), 2 EMIT (in), 3 COLLEC (oe)

## BH-10
designator XP?
footprint BH-10 (Connector; IDC, Low Profile Male Header, Thru-Hole; 10 Position; Vertical; Pitch 2.54 mm; Body 20.32 x 9.2 x 9.45 mm (LxWxH))
pins: 1, 2, 3, 4, 5, 6, 7, 8, 9, 10

## BHS-10
designator XP?
footprint BHS-10
pins: 1, 2, 3, 4, 5, 6, 7, 8, 9, 10

## BL-HD1X134B-TRB
designator VD?  (value not drawn)
Value: *
footprint BL-HD1X134B-TRB
pins on every part: 3 ANOD
part A pins: 1 CATODE
part B pins: 2 CATODE

## BL-HUB33
designator HL?
Red LED SMD1206
footprint DIOM3216X11N (Molded Diode, 2-Leads, Body 3,20x1,60mm, IPC Medium Density)
pins: 1 A, 2 C

## BL-HUB34C-TRB
designator HL?
Red LED SMD1206
footprint BL-HUB34C-TRB
pins: 1 C, 3 A

## BL-HUB36A
designator HL?
Red LED SMD0603
footprint LED0603
pins: 1 A, 2 C

## BluePill
designator U?, comment STM32F103C8T6
Designed By @Alixahedi
footprint Stm32 BluePill
pins: 1 PB12, 2 PB13, 3 PB14, 4 PB15, 5 PA8, 6 PA9, 7 PA10, 8 PA11, 9 PA12, 10 PA15, 11 PB3, 12 PB4, 13 PB5, 14 PB6, 15 PB7, 16 PB8, 17 PB9, 18 5V, 19 GND, 20 3V3, 21 VBAT, 22 PC13, 23 PC14, 24 PC15, 25 PA0, 26 PA1, 27 PA2, 28 PA3, 29 PA4, 30 PA5, 31 PA6, 32 PA7, 33 PB0, 34 PB1, 35 PB10, 36 PB11, 37 NRST, 38 3V3, 39 GND, 40 GND
text: MCU

## BNC
designator XS?  (value not drawn)
PDIF_TY: 13000; PDIF_I_PID: BNC.SYM; Value: *
footprint BNC
pins: 1, 2, 3 hidden, 4 hidden

## BNC2
designator *
footprint BNC2
pins: 1, 2

## BNX016-0`1
designator L?
footprint BNC016-01 (Low profile version)
pins: 1 PSG, 2 CG, 3 CG, 4 CB, 5 CG, 6 B

## BPW34S
designator VD?
Silicon PIN Photodiode
footprint DIOM4439X12N (Molded Diode, 2-Leads, Body 4,40x3,85mm, IPC Medium Density)
pins: 1 A, 2 C

## BRM6200
designator VD?
footprint BRM6200
pins: 1 A, 2 C

## BZT03C100
designator VD?  (value not drawn)
Silicon Switching Diode Array for High-Speed Switching; Published: 21-Mar-2003; DatasheetDocument: Oct-1999; PackageDocument: Sep-2001; PackageReference: SOT-23; Publisher: Altium Limited; ComponentLink1Description: Manufacturer Link; ComponentLink1URL: http://www.infineon.com/; ComponentLink2Description: Datasheet; ComponentLink2URL: http://www.infineon.com/upload/Document/cmc_upload/documents/080/631/bav99series_1.pdf
footprint BZT03C100
pins: 1 A, 2 C

## BZT03C200
designator VD?  (value not drawn)
Silicon Switching Diode Array for High-Speed Switching; Published: 21-Mar-2003; DatasheetDocument: Oct-1999; PackageDocument: Sep-2001; PackageReference: SOT-23; Publisher: Altium Limited; ComponentLink1Description: Manufacturer Link; ComponentLink1URL: http://www.infineon.com/; ComponentLink2Description: Datasheet; ComponentLink2URL: http://www.infineon.com/upload/Document/cmc_upload/documents/080/631/bav99series_1.pdf
footprint BZT03C200
pins: 1 A, 2 C

## C0603
designator C?, comment 0,1 мкФ
планарный конденсатор; Value: 0,1 мкФ
footprint C0603
pins: 1, 2

## C0805
designator C?, comment 0,1 мкФ
планарный конденсатор; Value: 0,1 мкФ
footprint CAPC2012L-С0805 (Chip Capacitor, Body 2.0x1.3mm, IPC High Density)
pins: 1, 2

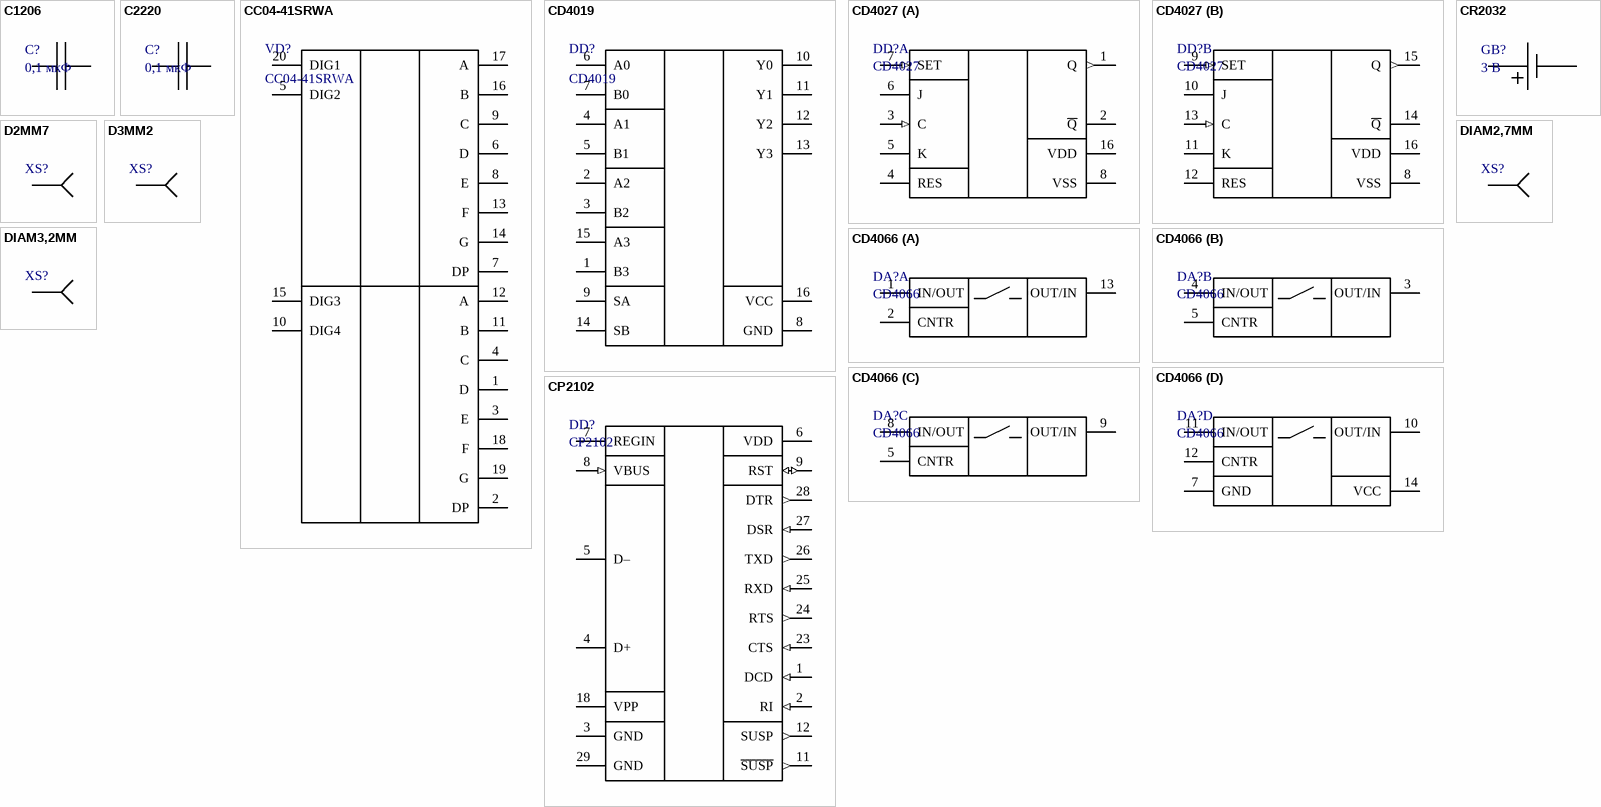
[diagram p5: symbols C1206 to DIAM3,2MM]

## C1206
designator C?, comment 0,1 мкФ
планарный конденсатор; Value: 0,1 мкФ
footprint C1206
pins: 1, 2

## C2220
designator C?, comment 0,1 мкФ
планарный конденсатор; Value: 0,1 мкФ
footprint CAPC5750L (Chip Capacitor, Body 5.7x5.0mm, IPC High Density)
pins: 1, 2

## CC04-41SRWA
designator VD?
FOUR DIGIT NUMERIC  DISPLAY
footprint CC04-41SRWA
pins: 1 D, 2 DP, 3 E, 4 C, 5 DIG2, 6 D, 7 DP, 8 E, 9 C, 10 DIG4, 11 B, 12 A, 13 F, 14 G, 15 DIG3, 16 B, 17 A, 18 F, 19 G, 20 DIG1

## CD4019
designator DD?
footprint R-16A_M (16-Pin Small Outline Integrated Circuit 1.27 mm Pitch, IPC Low Density)
pins: 1 B3, 2 A2, 3 B2, 4 A1, 5 B1, 6 A0, 7 B0, 8 GND, 9 SA, 10 Y0, 11 Y1, 12 Y2, 13 Y3, 14 SB, 15 A3, 16 VCC

## CD4027
designator DD?
2X-JK-TRIGGER
footprint R-16A_M (16-Pin Small Outline Integrated Circuit 1.27 mm Pitch, IPC Low Density)
part A pins: 1 Q (out), 2 ~{Q}, 3 C (in), 4 RES, 5 K, 6 J, 7 SET (in), 8 VSS (power), 16 VDD (power)
part B pins: 8 VSS (power), 9 SET (in), 10 J, 11 K, 12 RES, 13 C (in), 14 ~{Q}, 15 Q (out), 16 VDD (power)

## CD4066
designator DA?
footprint R-14_M (14-Pin Narrow Body Small Outline Integrated Circuit 1.27 mm Pitch, IPC Low Density)
part A pins: 1 IN/OUT, 2 CNTR, 13 OUT/IN
part B pins: 3 OUT/IN, 4 IN/OUT, 5 CNTR
part C pins: 5 CNTR, 8 IN/OUT, 9 OUT/IN
part D pins: 7 GND, 10 OUT/IN, 11 IN/OUT, 12 CNTR, 14 VCC

## CP2102
designator DD?
footprint QFN50P500X500-28V1N (QFN, 28-Leads, Body 5x5mm, Pitch 0.5mm, IPC Medium Density)
pins: 1 DCD (in), 2 RI (in), 3 GND (power), 4 D+, 5 D–, 6 VDD (power), 7 REGIN (power), 8 VBUS (in), 9 RST (io), 11 ~{SUSP} (out), 12 SUSP (out), 18 VPP (power), 23 CTS (in), 24 RTS (out), 25 RXD (in), 26 TXD (out), 27 DSR (in), 28 DTR (out), 29 GND (power)

## CR2032
designator GB?, comment 3 В
Литиевый элемент; Value: 3 В
footprint CR2035
pins: 1 +, 2 +, 3 -

## D2MM7
designator XS?  (value not drawn)
KlemmaD1
footprint D2MM7
pins: 0

## D3MM2
designator XS?  (value not drawn)
footprint D3MM2
pins: 1

## DIAM2,7MM
designator XS?  (value not drawn)
footprint DIAM2,7MM
pins: 1

## DIAM3,2MM
designator XS?  (value not drawn)
footprint DIAM3,2MM
pins: 1

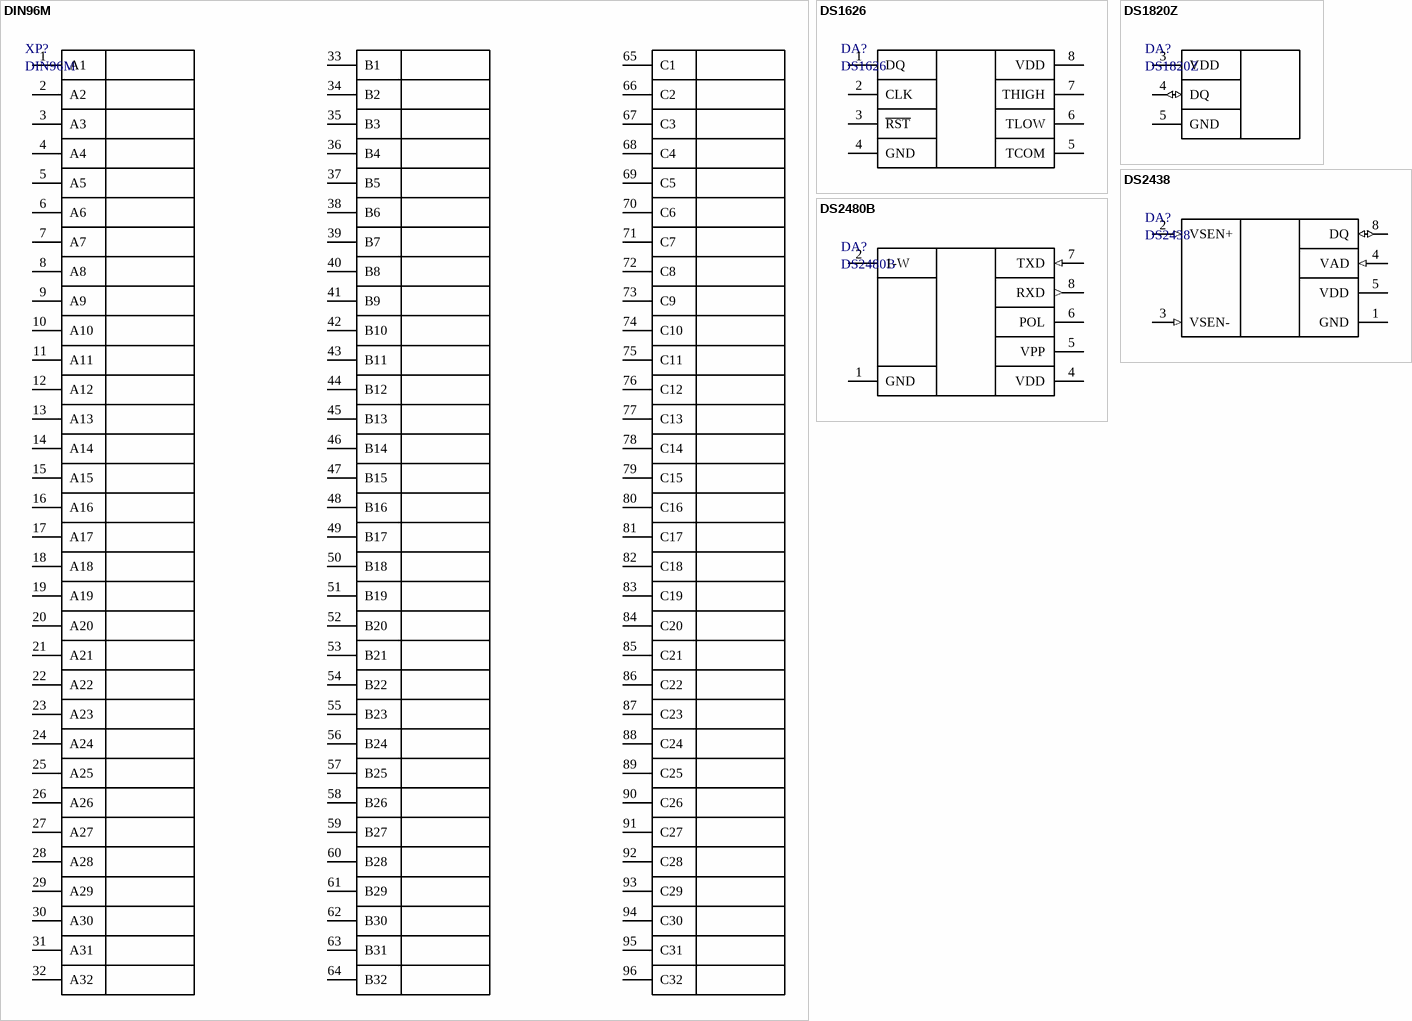
[diagram p6: symbols DIN96M to DS2480B]

## DIN96M
designator XP?
footprint DIN96M
pins: 1 A1, 2 A2, 3 A3, 4 A4, 5 A5, 6 A6, 7 A7, 8 A8, 9 A9, 10 A10, 11 A11, 12 A12, 13 A13, 14 A14, 15 A15, 16 A16, 17 A17, 18 A18, 19 A19, 20 A20, 21 A21, 22 A22, 23 A23, 24 A24, 25 A25, 26 A26, 27 A27, 28 A28, 29 A29, 30 A30, 31 A31, 32 A32, 33 B1, 34 B2, 35 B3, 36 B4, 37 B5, 38 B6, 39 B7, 40 B8, 41 B9, 42 B10, 43 B11, 44 B12, 45 B13, 46 B14, 47 B15, 48 B16, 49 B17, 50 B18, 51 B19, 52 B20, 53 B21, 54 B22, 55 B23, 56 B24, 57 B25, 58 B26, 59 B27, 60 B28, 61 B29, 62 B30, 63 B31, 64 B32, 65 C1, 66 C2, 67 C3, 68 C4, 69 C5, 70 C6, 71 C7, 72 C8, 73 C9, 74 C10, 75 C11, 76 C12, 77 C13, 78 C14, 79 C15, 80 C16, 81 C17, 82 C18, 83 C19, 84 C20, 85 C21, 86 C22, 87 C23, 88 C24, 89 C25, 90 C26, 91 C27, 92 C28, 93 C29, 94 C30, 95 C31, 96 C32

## DS1626
designator DA?
High-Precision 3-Wire Digital  Thermometer and Thermostat
footprint UMAX8 (Shrink Small Outline; 8 Leads; Body Width 3 mm; Pitch 0.65 mm)
pins: 1 DQ (power), 2 CLK, 3 ~{RST}, 4 GND (power), 5 TCOM (power), 6 TLOW, 7 THIGH, 8 VDD

## DS1820Z
designator DA?
footprint SOIC127P600-8BM (SOIC, 8-Leads, Body 4.9x3.9mm, Pitch 1.27mm, IPC Low Density)
pins: 3 VDD (power), 4 DQ (io), 5 GND (power)

## DS2438
designator DA?
Smart Battery Monitor
footprint SOIC_N_EP (8-Pin Small Outline Integrated Circuit 1.27 mm Pitch, IPC High Density)
pins: 1 GND (power), 2 VSEN+ (in), 3 VSEN- (in), 4 VAD (in), 5 VDD (power), 8 DQ (io)

## DS2480B
designator DA?
footprint SOIC127P600-8BM (SOIC, 8-Leads, Body 4.9x3.9mm, Pitch 1.27mm, IPC Low Density)
pins: 1 GND (power), 2 1-W, 4 VDD (power), 5 VPP (power), 6 POL, 7 TXD (in), 8 RXD (out)

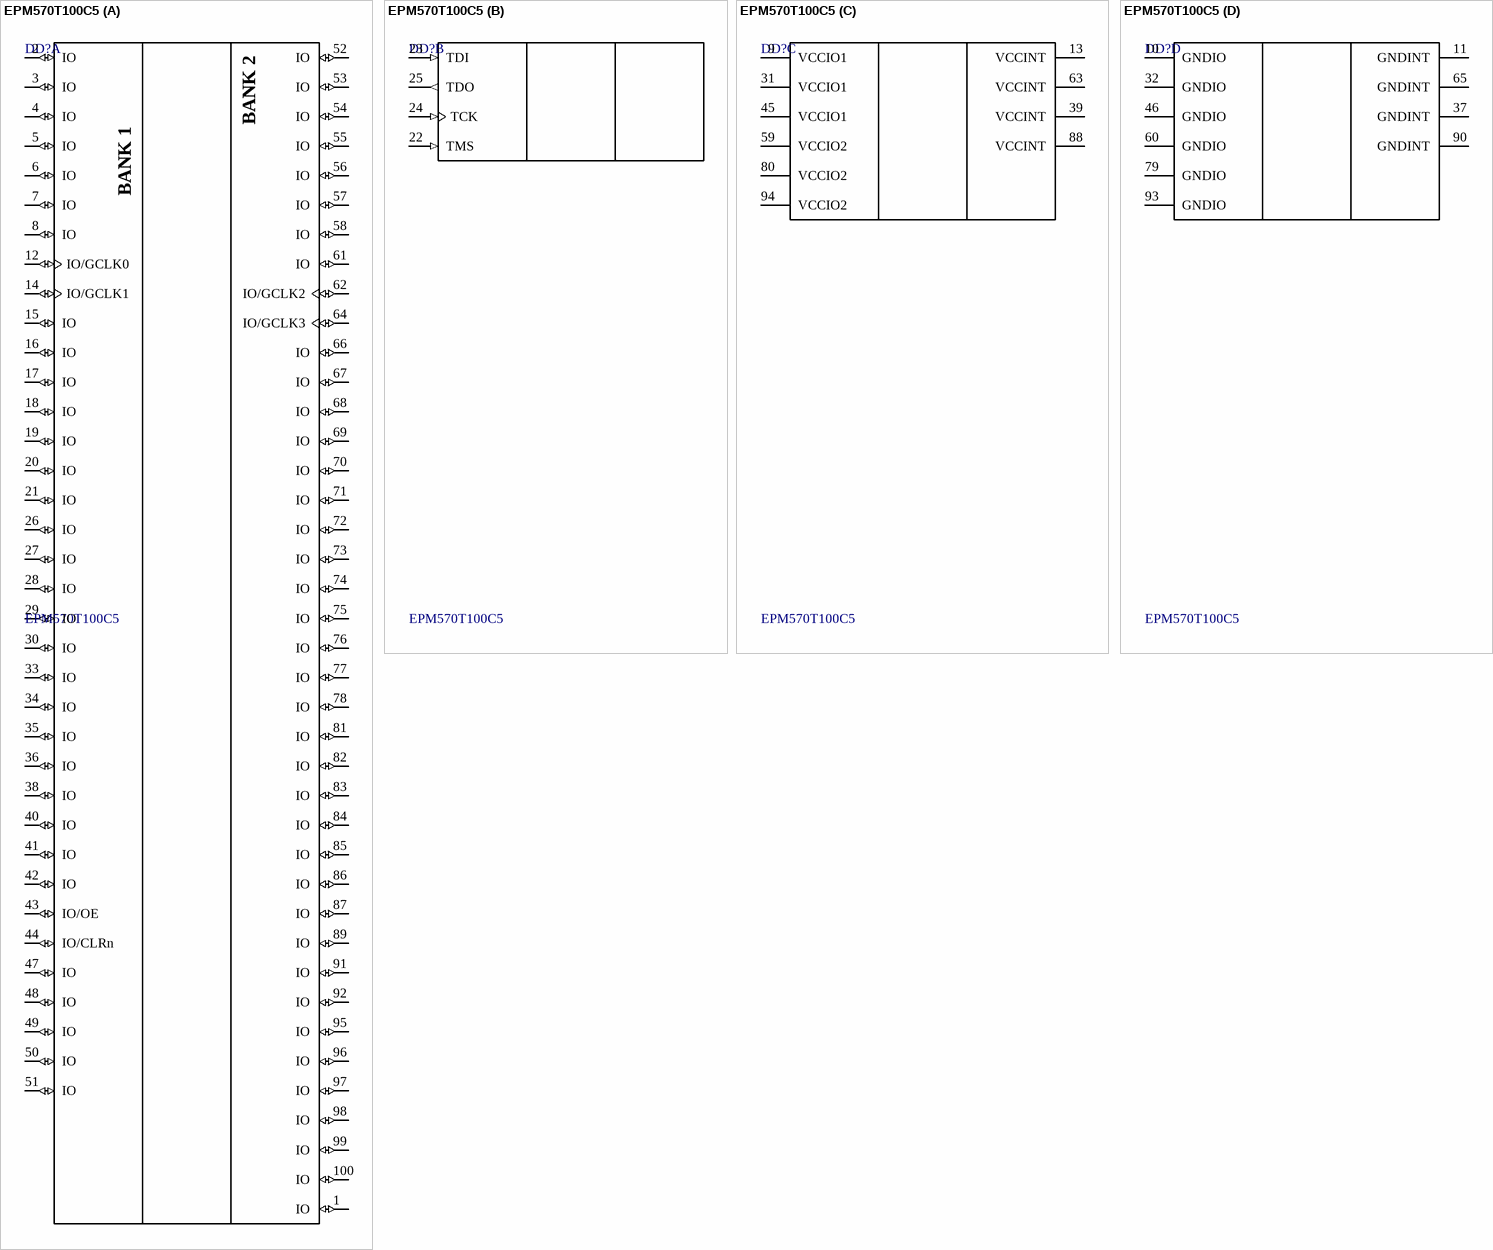
[diagram p7: symbol EPM570T100C5]

## EPM570T100C5
designator DD?
MAX II 3.3/2.5V CPLD, 76 IOs, 570 Logic Elements, 100-Pin Plastic TQFP, Commercial Temperature, Speed Grade 5; Note: All VCCINT pins must be connected to either 3.3V or 2.5V (but not a combination of both).; DatasheetVersion: ver1.8, Jul-2006; PackageVersion: ver16.3, Dec-2010; PackageReference: TQFP100; PackageDescription: 100-Pin Plastic Thin Quad Flat Pack (TQFP100) - Wire Bond; Code_JEDEC: MS-026-AED; ComponentLink1Description: Manufacturer URL; ComponentLink1URL: http://www.altera.com/; ComponentLink2Description: Handbook; ComponentLink2URL: http://www.altera.com/literature/hb/max2/max2_mii5v1.pdf; ComponentLink3Description: Package Specification; ComponentLink3URL: http://www.altera.com/literature/ds/dspkg.pdf
footprint TQFP100_N (Thin QFP, 100-Leads, Body 14x14mm, Pitch 0.5mm, IPC Medium Density)
part A pins: 1 IO (io), 2 IO (io), 3 IO (io), 4 IO (io), 5 IO (io), 6 IO (io), 7 IO (io), 8 IO (io), 12 IO/GCLK0 (io), 14 IO/GCLK1 (io), 15 IO (io), 16 IO (io), 17 IO (io), 18 IO (io), 19 IO (io), 20 IO (io), 21 IO (io), 26 IO (io), 27 IO (io), 28 IO (io), 29 IO (io), 30 IO (io), 33 IO (io), 34 IO (io), 35 IO (io), 36 IO (io), 38 IO (io), 40 IO (io), 41 IO (io), 42 IO (io), 43 IO/OE (io), 44 IO/CLRn (io), 47 IO (io), 48 IO (io), 49 IO (io), 50 IO (io), 51 IO (io), 52 IO (io), 53 IO (io), 54 IO (io), 55 IO (io), 56 IO (io), 57 IO (io), 58 IO (io), 61 IO (io), 62 IO/GCLK2 (io), 64 IO/GCLK3 (io), 66 IO (io), 67 IO (io), 68 IO (io), 69 IO (io), 70 IO (io), 71 IO (io), 72 IO (io), 73 IO (io), 74 IO (io), 75 IO (io), 76 IO (io), 77 IO (io), 78 IO (io), 81 IO (io), 82 IO (io), 83 IO (io), 84 IO (io), 85 IO (io), 86 IO (io), 87 IO (io), 89 IO (io), 91 IO (io), 92 IO (io), 95 IO (io), 96 IO (io), 97 IO (io), 98 IO (io), 99 IO (io), 100 IO (io)
part B pins: 22 TMS (in), 23 TDI (in), 24 TCK (in), 25 TDO (out)
part C pins: 9 VCCIO1 (power), 13 VCCINT (power), 31 VCCIO1 (power), 39 VCCINT (power), 45 VCCIO1 (power), 59 VCCIO2 (power), 63 VCCINT (power), 80 VCCIO2 (power), 88 VCCINT (power), 94 VCCIO2 (power)
part D pins: 10 GNDIO (power), 11 GNDINT (power), 32 GNDIO (power), 37 GNDINT (power), 46 GNDIO (power), 60 GNDIO (power), 65 GNDINT (power), 79 GNDIO (power), 90 GNDINT (power), 93 GNDIO (power)
part A text: BANK 1; BANK 2

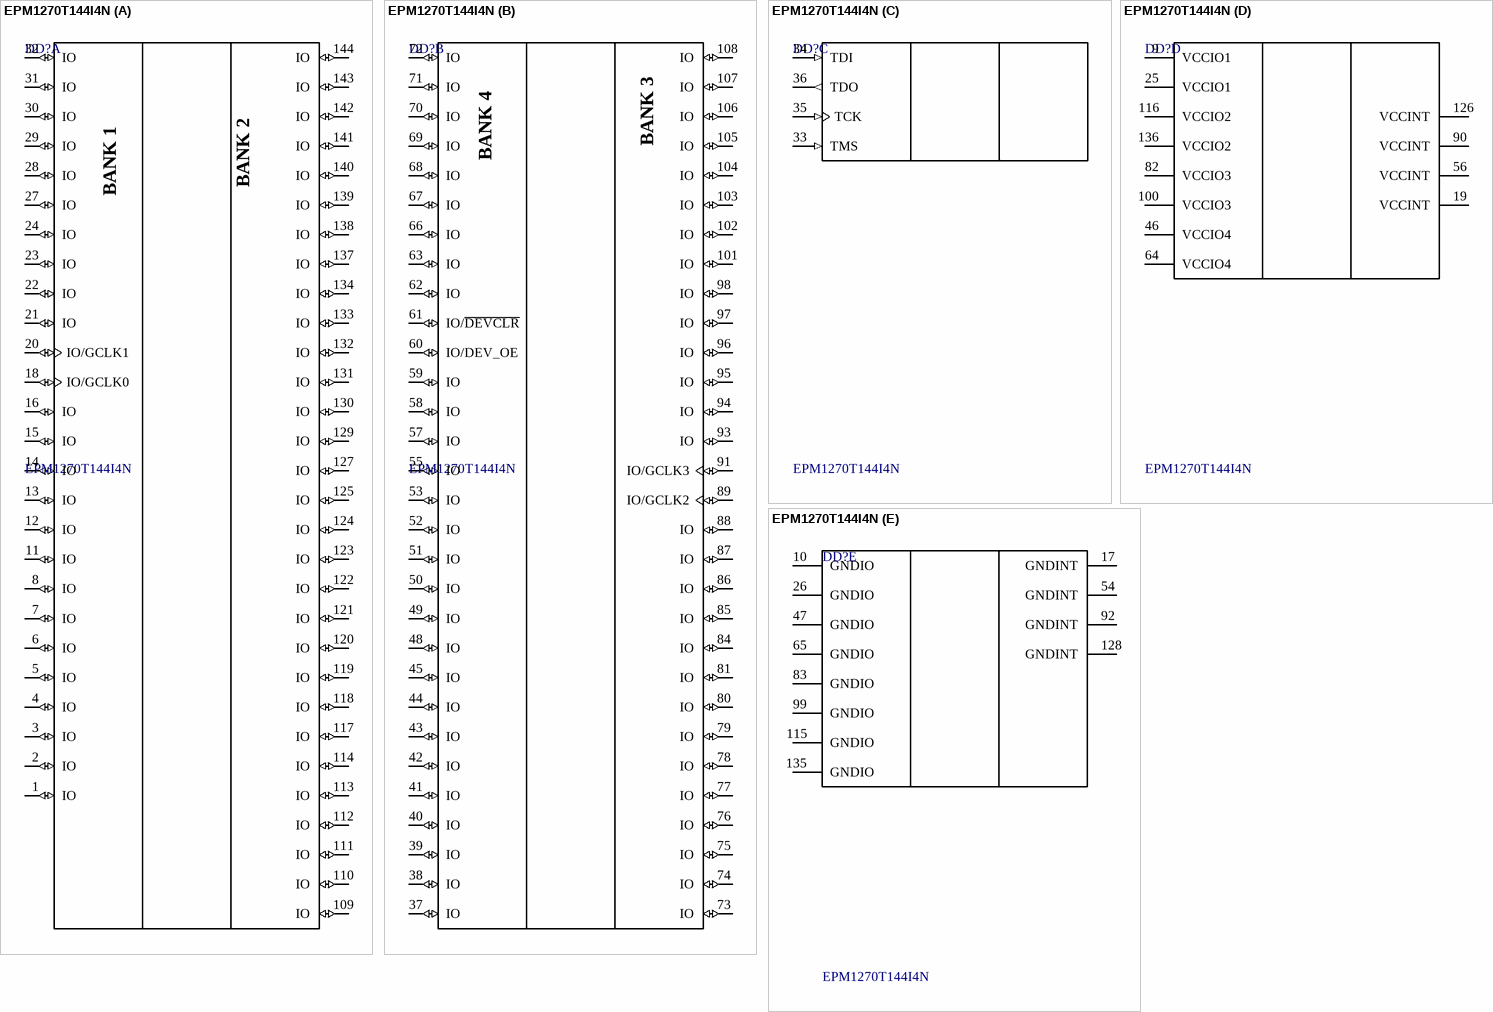
[diagram p8: symbol EPM1270T144I4N]

## EPM1270T144I4N
designator DD?
MAX II 3.3/2.5V CPLD, 116 IOs, 1,270 Logic Elements, 144-Pin Plastic TQFP, Industrial Temperature, Speed Grade 4, Pb-Free; Note: All VCCINT pins must be connected to either 3.3V or 2.5V (but not a combination of both).; DatasheetVersion: ver1.8, Jul-2006; PackageVersion: ver16.3, Dec-2010; PackageReference: TQFP144; PackageDescription: 144-Pin Plastic Thin Quad Flat Pack (TQFP144) - Wire Bond; Code_JEDEC: MS-026-BFB; ComponentLink1Description: Manufacturer URL; ComponentLink1URL: http://www.altera.com/; ComponentLink2Description: Handbook; ComponentLink2URL: http://www.altera.com/literature/hb/max2/max2_mii5v1.pdf; ComponentLink3Description: Package Specification; ComponentLink3URL: http://www.altera.com/literature/ds/dspkg.pdf
footprint TQFP144_N (Thin QFP, 144-Leads, Body 20x20mm, Pitch 0.5mm, IPC Medium Density)
footprint TQFP144_L (Thin QFP, 144-Leads, Body 20x20mm, Pitch 0.5mm, IPC High Density)
footprint TQFP144_M (Thin QFP, 144-Leads, Body 20x20mm, Pitch 0.5mm, IPC Low Density)
part A pins: 1 IO (io), 2 IO (io), 3 IO (io), 4 IO (io), 5 IO (io), 6 IO (io), 7 IO (io), 8 IO (io), 11 IO (io), 12 IO (io), 13 IO (io), 14 IO (io), 15 IO (io), 16 IO (io), 18 IO/GCLK0 (io), 20 IO/GCLK1 (io), 21 IO (io), 22 IO (io), 23 IO (io), 24 IO (io), 27 IO (io), 28 IO (io), 29 IO (io), 30 IO (io), 31 IO (io), 32 IO (io), 109 IO (io), 110 IO (io), 111 IO (io), 112 IO (io), 113 IO (io), 114 IO (io), 117 IO (io), 118 IO (io), 119 IO (io), 120 IO (io), 121 IO (io), 122 IO (io), 123 IO (io), 124 IO (io), 125 IO (io), 127 IO (io), 129 IO (io), 130 IO (io), 131 IO (io), 132 IO (io), 133 IO (io), 134 IO (io), 137 IO (io), 138 IO (io), 139 IO (io), 140 IO (io), 141 IO (io), 142 IO (io), 143 IO (io), 144 IO (io)
part B pins: 37 IO (io), 38 IO (io), 39 IO (io), 40 IO (io), 41 IO (io), 42 IO (io), 43 IO (io), 44 IO (io), 45 IO (io), 48 IO (io), 49 IO (io), 50 IO (io), 51 IO (io), 52 IO (io), 53 IO (io), 55 IO (io), 57 IO (io), 58 IO (io), 59 IO (io), 60 IO/DEV_OE (io), 61 IO/~{DEVCLR} (io), 62 IO (io), 63 IO (io), 66 IO (io), 67 IO (io), 68 IO (io), 69 IO (io), 70 IO (io), 71 IO (io), 72 IO (io), 73 IO (io), 74 IO (io), 75 IO (io), 76 IO (io), 77 IO (io), 78 IO (io), 79 IO (io), 80 IO (io), 81 IO (io), 84 IO (io), 85 IO (io), 86 IO (io), 87 IO (io), 88 IO (io), 89 IO/GCLK2 (io), 91 IO/GCLK3 (io), 93 IO (io), 94 IO (io), 95 IO (io), 96 IO (io), 97 IO (io), 98 IO (io), 101 IO (io), 102 IO (io), 103 IO (io), 104 IO (io), 105 IO (io), 106 IO (io), 107 IO (io), 108 IO (io)
part C pins: 33 TMS (in), 34 TDI (in), 35 TCK (in), 36 TDO (out)
part D pins: 9 VCCIO1 (power), 19 VCCINT (power), 25 VCCIO1 (power), 46 VCCIO4 (power), 56 VCCINT (power), 64 VCCIO4 (power), 82 VCCIO3 (power), 90 VCCINT (power), 100 VCCIO3 (power), 116 VCCIO2 (power), 126 VCCINT (power), 136 VCCIO2 (power)
part E pins: 10 GNDIO (power), 17 GNDINT (power), 26 GNDIO (power), 47 GNDIO (power), 54 GNDINT (power), 65 GNDIO (power), 83 GNDIO (power), 92 GNDINT (power), 99 GNDIO (power), 115 GNDIO (power), 128 GNDINT (power), 135 GNDIO (power)
part A text: BANK 2; BANK 1
part B text: BANK 3; BANK 4

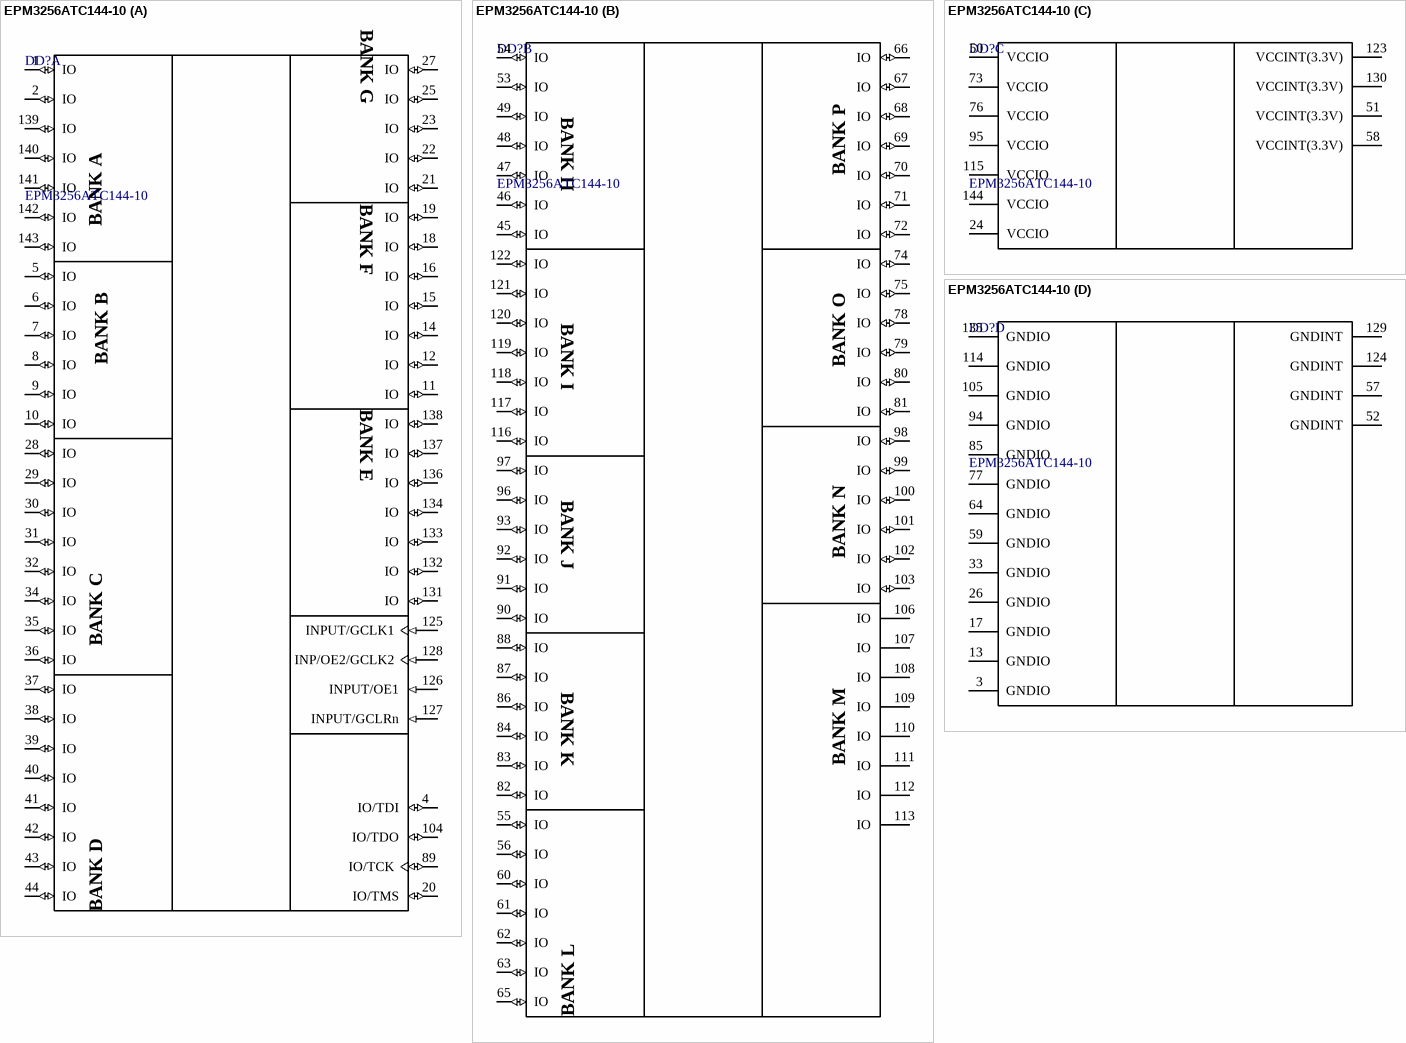
[diagram p9: symbol EPM3256ATC144-10]

## EPM3256ATC144-10
designator DD?
MAX 3256A 3.3V CPLD, 116 IOs, 144-Pin Plastic TQFP, Commercial Temperature, Speed Grade 10; Published: 23-Sep-2002; LatestRevisionDate: 13-Apr-2006; LatestRevisionNote: IPC-7351 Footprint Added.; DatasheetVersion: ver3.5, Jun-2006; PackageVersion: ver15.4, Dec-2008; PackageReference: TQFP144; Publisher: Altium Limited; PackageDescription: 144-Pin Plastic Thin Quad Flat Pack (TQFP144) - Wire Bond; Supplier 1: Digi-Key; Supplier Part Number 1: 544-1172-ND; Code_JEDEC: MS-026-BFB; ComponentLink1Description: Manufacturer Link; ComponentLink1URL: http://www.altera.com/products/devices/max3k/m3k-index.html; ComponentLink2Description: Datasheet; ComponentLink2URL: http://www.altera.com/literature/ds/m3000a.pdf; ComponentLink3Description: Packaging Specification; ComponentLink3URL: http://www.altera.com/literature/ds/dspkg.pdf
footprint TQFP144_N (Thin QFP, 144-Leads, Body 20x20mm, Pitch 0.5mm, IPC Medium Density)
footprint TQFP144_L (Thin QFP, 144-Leads, Body 20x20mm, Pitch 0.5mm, IPC High Density)
footprint TQFP144_M (Thin QFP, 144-Leads, Body 20x20mm, Pitch 0.5mm, IPC Low Density)
3D model EPM3256A-TQFP144 (144-Pin Plastic Thin Quad Flat Pack (TQFP144) - Wire Bond)
signal-integrity model max3ka (MAX 3000A)
part A pins: 1 IO (io), 2 IO (io), 4 IO/TDI (io), 5 IO (io), 6 IO (io), 7 IO (io), 8 IO (io), 9 IO (io), 10 IO (io), 11 IO (io), 12 IO (io), 14 IO (io), 15 IO (io), 16 IO (io), 18 IO (io), 19 IO (io), 20 IO/TMS (io), 21 IO (io), 22 IO (io), 23 IO (io), 25 IO (io), 27 IO (io), 28 IO (io), 29 IO (io), 30 IO (io), 31 IO (io), 32 IO (io), 34 IO (io), 35 IO (io), 36 IO (io), 37 IO (io), 38 IO (io), 39 IO (io), 40 IO (io), 41 IO (io), 42 IO (io), 43 IO (io), 44 IO (io), 89 IO/TCK (io), 104 IO/TDO (io), 125 INPUT/GCLK1 (in), 126 INPUT/OE1 (in), 127 INPUT/GCLRn (in), 128 INP/OE2/GCLK2 (in), 131 IO (io), 132 IO (io), 133 IO (io), 134 IO (io), 136 IO (io), 137 IO (io), 138 IO (io), 139 IO (io), 140 IO (io), 141 IO (io), 142 IO (io), 143 IO (io)
part B pins: 45 IO (io), 46 IO (io), 47 IO (io), 48 IO (io), 49 IO (io), 53 IO (io), 54 IO (io), 55 IO (io), 56 IO (io), 60 IO (io), 61 IO (io), 62 IO (io), 63 IO (io), 65 IO (io), 66 IO (io), 67 IO (io), 68 IO (io), 69 IO (io), 70 IO (io), 71 IO (io), 72 IO (io), 74 IO (io), 75 IO (io), 78 IO (io), 79 IO (io), 80 IO (io), 81 IO (io), 82 IO (io), 83 IO (io), 84 IO (io), 86 IO (io), 87 IO (io), 88 IO (io), 90 IO (io), 91 IO (io), 92 IO (io), 93 IO (io), 96 IO (io), 97 IO (io), 98 IO (io), 99 IO (io), 100 IO (io), 101 IO (io), 102 IO (io), 103 IO (io), 106 IO, 107 IO, 108 IO, 109 IO, 110 IO, 111 IO, 112 IO, 113 IO, 116 IO (io), 117 IO (io), 118 IO (io), 119 IO (io), 120 IO (io), 121 IO (io), 122 IO (io)
part C pins: 24 VCCIO (power), 50 VCCIO (power), 51 VCCINT(3.3V) (power), 58 VCCINT(3.3V) (power), 73 VCCIO (power), 76 VCCIO (power), 95 VCCIO (power), 115 VCCIO (power), 123 VCCINT(3.3V) (power), 130 VCCINT(3.3V) (power), 144 VCCIO (power)
part D pins: 3 GNDIO (power), 13 GNDIO (power), 17 GNDIO (power), 26 GNDIO (power), 33 GNDIO (power), 52 GNDINT (power), 57 GNDINT (power), 59 GNDIO (power), 64 GNDIO (power), 77 GNDIO (power), 85 GNDIO (power), 94 GNDIO (power), 105 GNDIO (power), 114 GNDIO (power), 124 GNDINT (power), 129 GNDINT (power), 135 GNDIO (power)
part A text: BANK G; BANK A; BANK F; BANK B; BANK E; BANK C; BANK D
part B text: BANK H; BANK P; BANK I; BANK O; BANK J; BANK N; BANK K; BANK M; BANK L

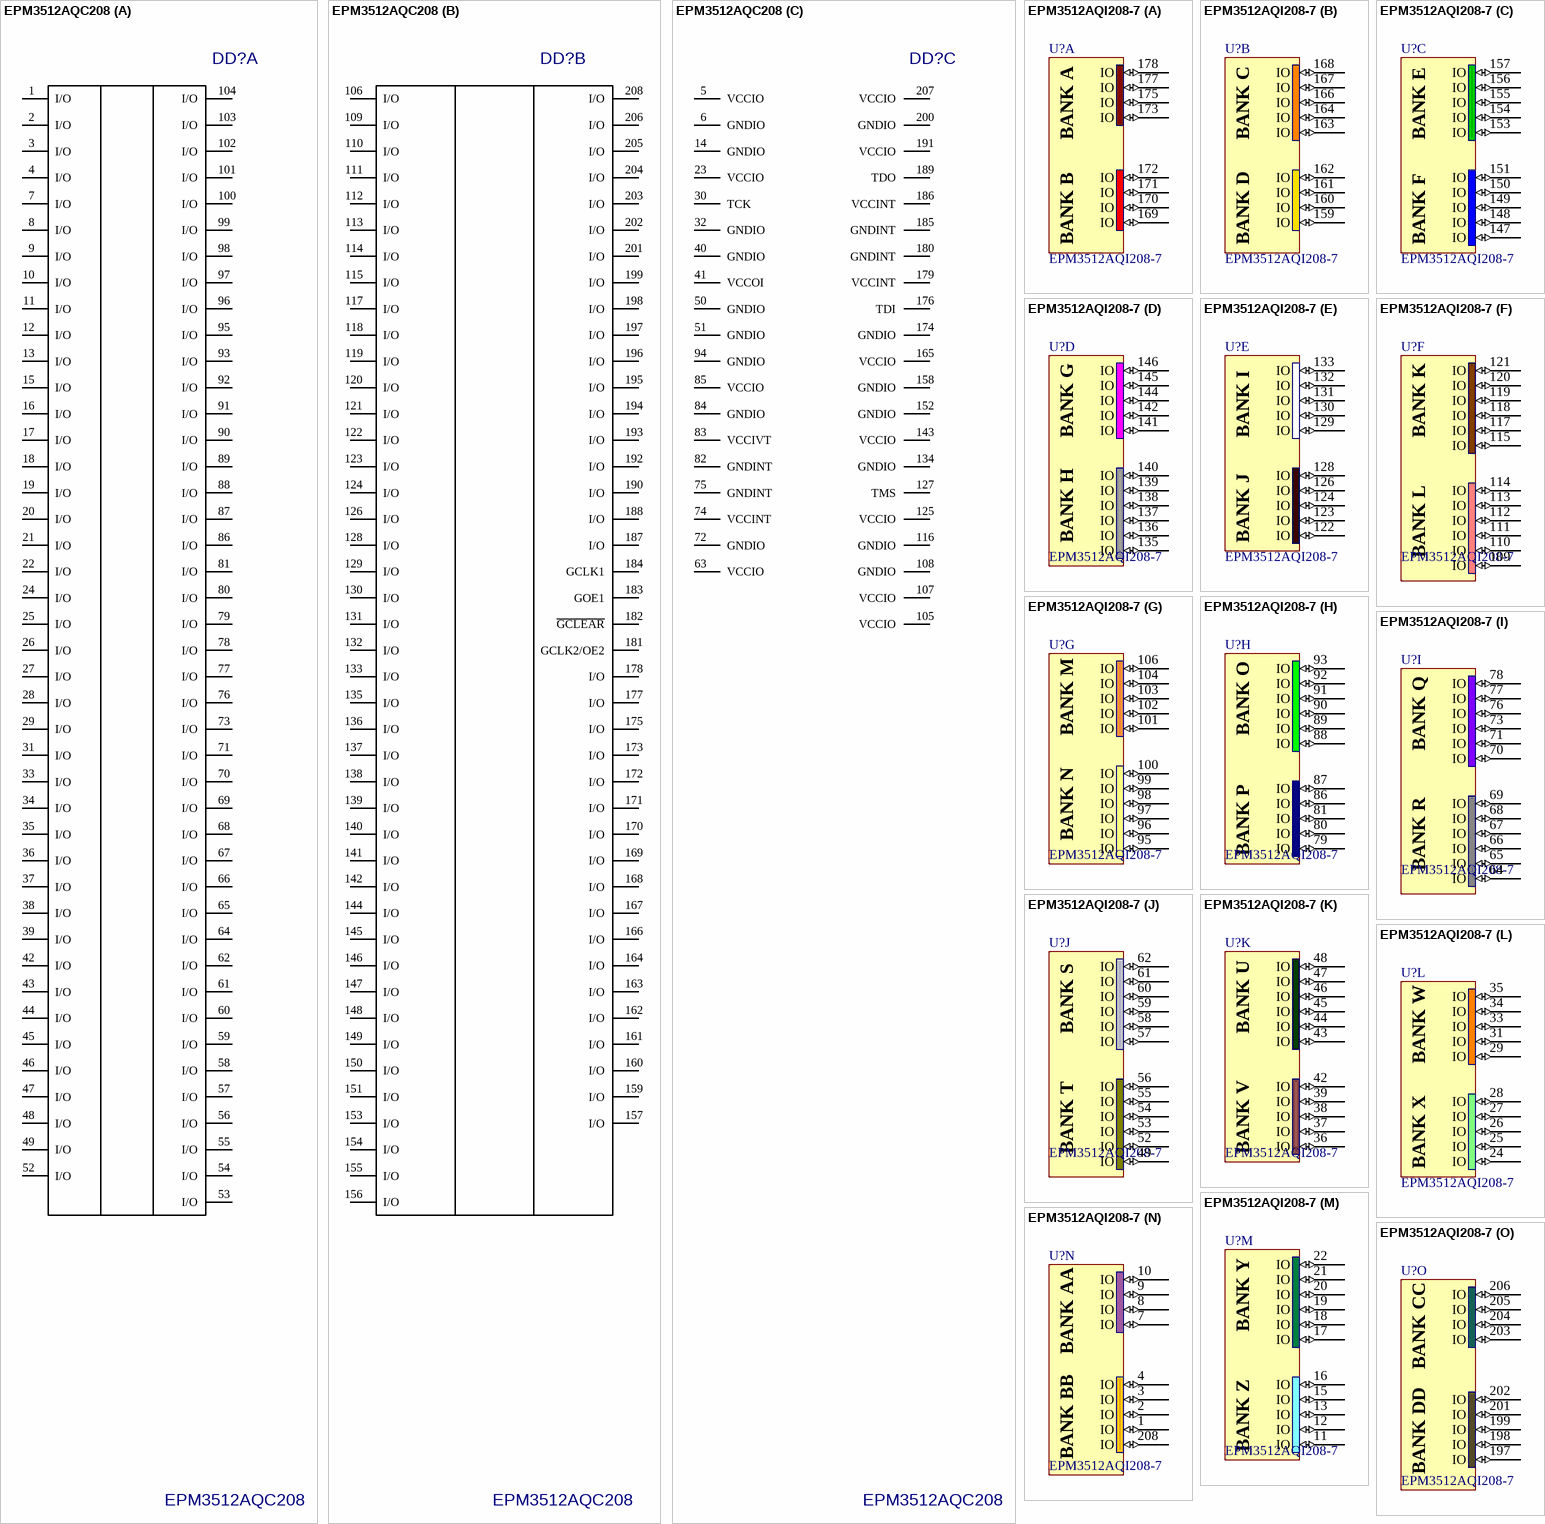
[diagram p10: symbols EPM3512AQC208 to EPM3512AQI208-7]

## EPM3512AQC208
designator DD?
Value: *
footprint MQFP208
part A pins: 1 I/O, 2 I/O, 3 I/O, 4 I/O, 7 I/O, 8 I/O, 9 I/O, 10 I/O, 11 I/O, 12 I/O, 13 I/O, 15 I/O, 16 I/O, 17 I/O, 18 I/O, 19 I/O, 20 I/O, 21 I/O, 22 I/O, 24 I/O, 25 I/O, 26 I/O, 27 I/O, 28 I/O, 29 I/O, 31 I/O, 33 I/O, 34 I/O, 35 I/O, 36 I/O, 37 I/O, 38 I/O, 39 I/O, 42 I/O, 43 I/O, 44 I/O, 45 I/O, 46 I/O, 47 I/O, 48 I/O, 49 I/O, 52 I/O, 53 I/O, 54 I/O, 55 I/O, 56 I/O, 57 I/O, 58 I/O, 59 I/O, 60 I/O, 61 I/O, 62 I/O, 64 I/O, 65 I/O, 66 I/O, 67 I/O, 68 I/O, 69 I/O, 70 I/O, 71 I/O, 73 I/O, 76 I/O, 77 I/O, 78 I/O, 79 I/O, 80 I/O, 81 I/O, 86 I/O, 87 I/O, 88 I/O, 89 I/O, 90 I/O, 91 I/O, 92 I/O, 93 I/O, 95 I/O, 96 I/O, 97 I/O, 98 I/O, 99 I/O, 100 I/O, 101 I/O, 102 I/O, 103 I/O, 104 I/O
part B pins: 106 I/O, 109 I/O, 110 I/O, 111 I/O, 112 I/O, 113 I/O, 114 I/O, 115 I/O, 117 I/O, 118 I/O, 119 I/O, 120 I/O, 121 I/O, 122 I/O, 123 I/O, 124 I/O, 126 I/O, 128 I/O, 129 I/O, 130 I/O, 131 I/O, 132 I/O, 133 I/O, 135 I/O, 136 I/O, 137 I/O, 138 I/O, 139 I/O, 140 I/O, 141 I/O, 142 I/O, 144 I/O, 145 I/O, 146 I/O, 147 I/O, 148 I/O, 149 I/O, 150 I/O, 151 I/O, 153 I/O, 154 I/O, 155 I/O, 156 I/O, 157 I/O, 159 I/O, 160 I/O, 161 I/O, 162 I/O, 163 I/O, 164 I/O, 166 I/O, 167 I/O, 168 I/O, 169 I/O, 170 I/O, 171 I/O, 172 I/O, 173 I/O, 175 I/O, 177 I/O, 178 I/O, 181 GCLK2/OE2, 182 ~{GCLEAR}, 183 GOE1, 184 GCLK1, 187 I/O, 188 I/O, 190 I/O, 192 I/O, 193 I/O, 194 I/O, 195 I/O, 196 I/O, 197 I/O, 198 I/O, 199 I/O, 201 I/O, 202 I/O, 203 I/O, 204 I/O, 205 I/O, 206 I/O, 208 I/O
part C pins: 5 VCCIO, 6 GNDIO, 14 GNDIO, 23 VCCIO, 30 TCK, 32 GNDIO, 40 GNDIO, 41 VCCOI, 50 GNDIO, 51 GNDIO, 63 VCCIO, 72 GNDIO, 74 VCCINT, 75 GNDINT, 82 GNDINT, 83 VCCIVT, 84 GNDIO, 85 VCCIO, 94 GNDIO, 105 VCCIO, 107 VCCIO, 108 GNDIO, 116 GNDIO, 125 VCCIO, 127 TMS, 134 GNDIO, 143 VCCIO, 152 GNDIO, 158 GNDIO, 165 VCCIO, 174 GNDIO, 176 TDI, 179 VCCINT, 180 GNDINT, 185 GNDINT, 186 VCCINT, 189 TDO, 191 VCCIO, 200 GNDIO, 207 VCCIO

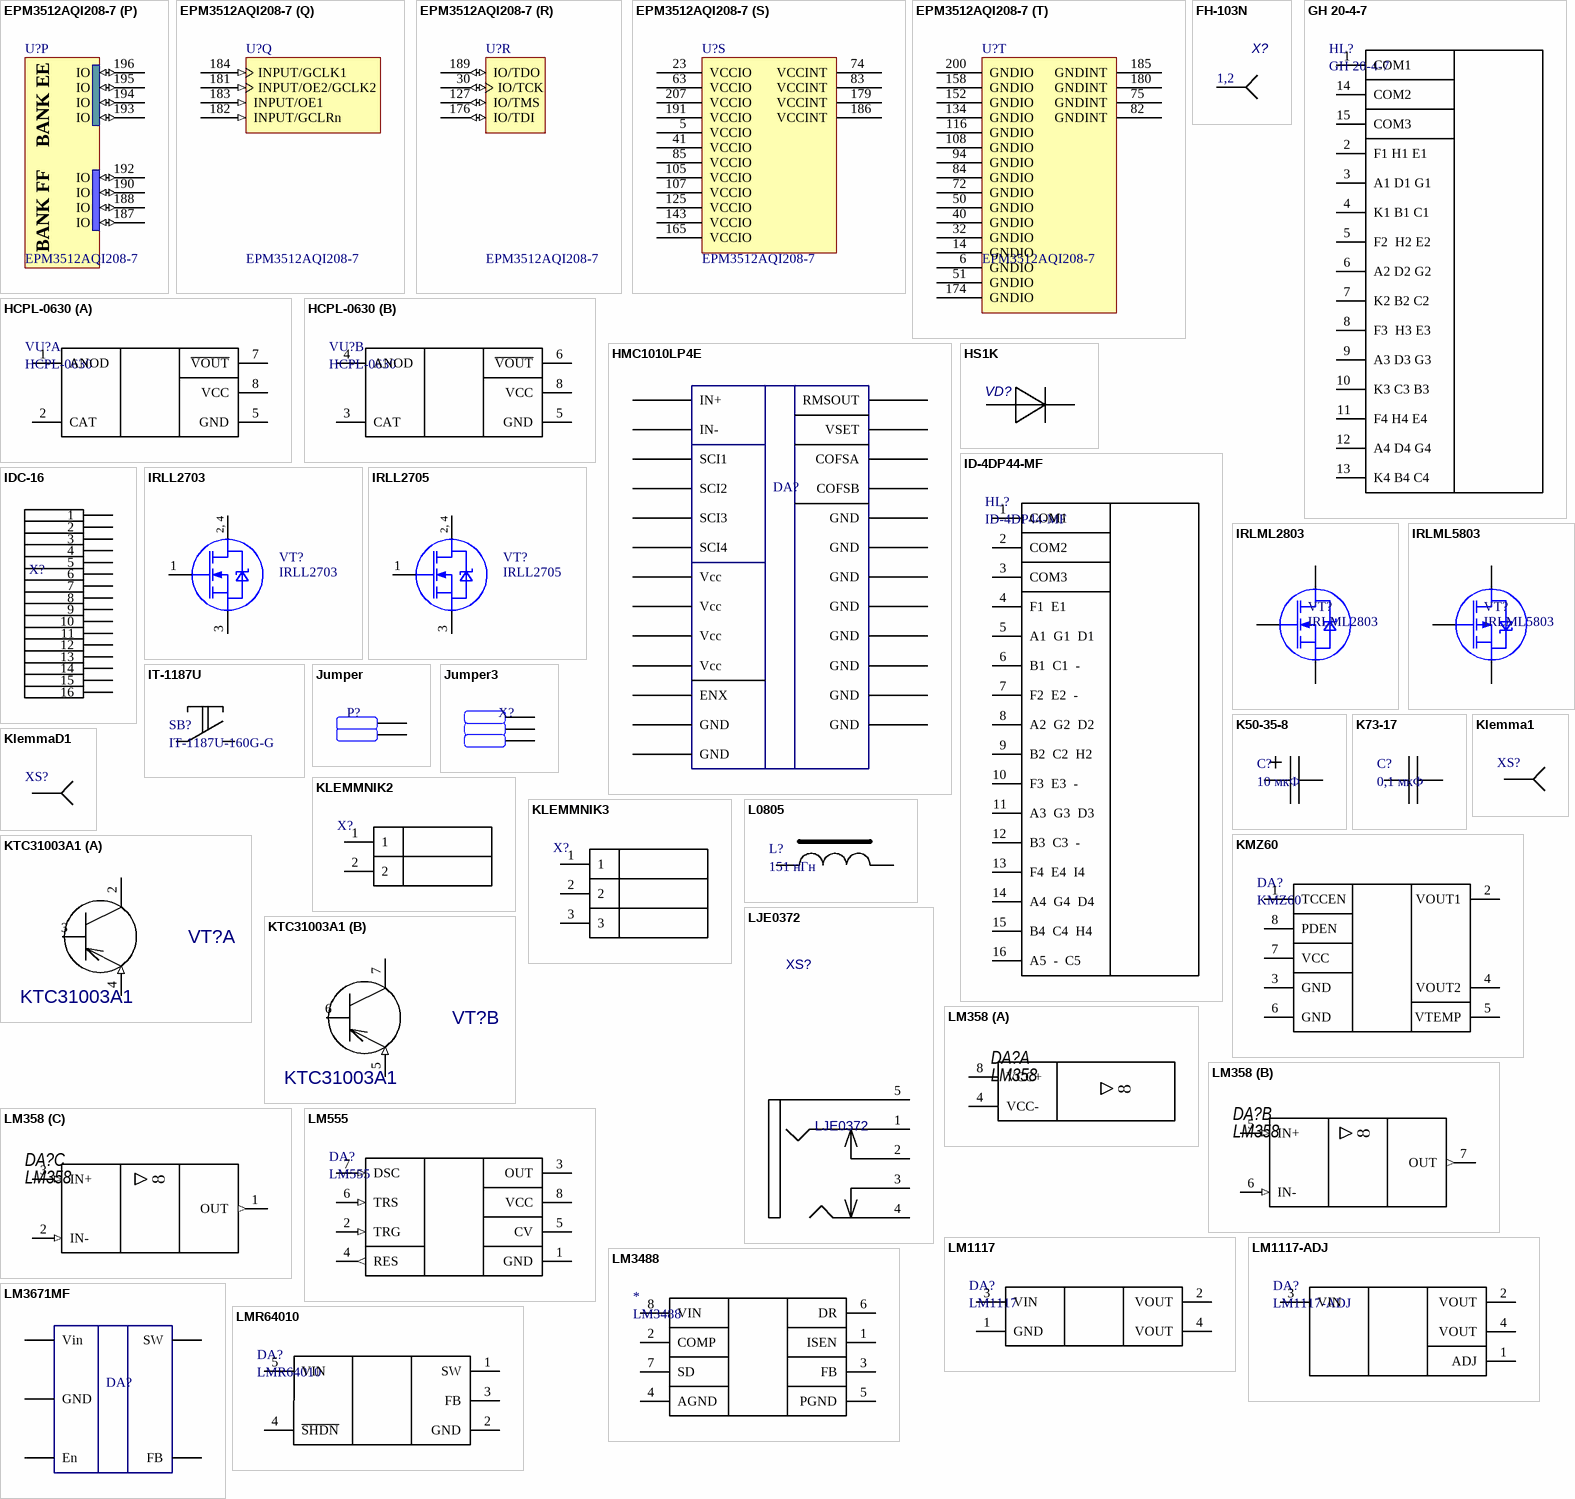
[diagram p11: symbols EPM3512AQI208-7 to LMR64010]